# Altium schematic symbol library MSP430原理图.SCHLIB: 130 symbols (part 1 of 2)
Pins are listed as number, name and electrical type; pins without a type are passive.

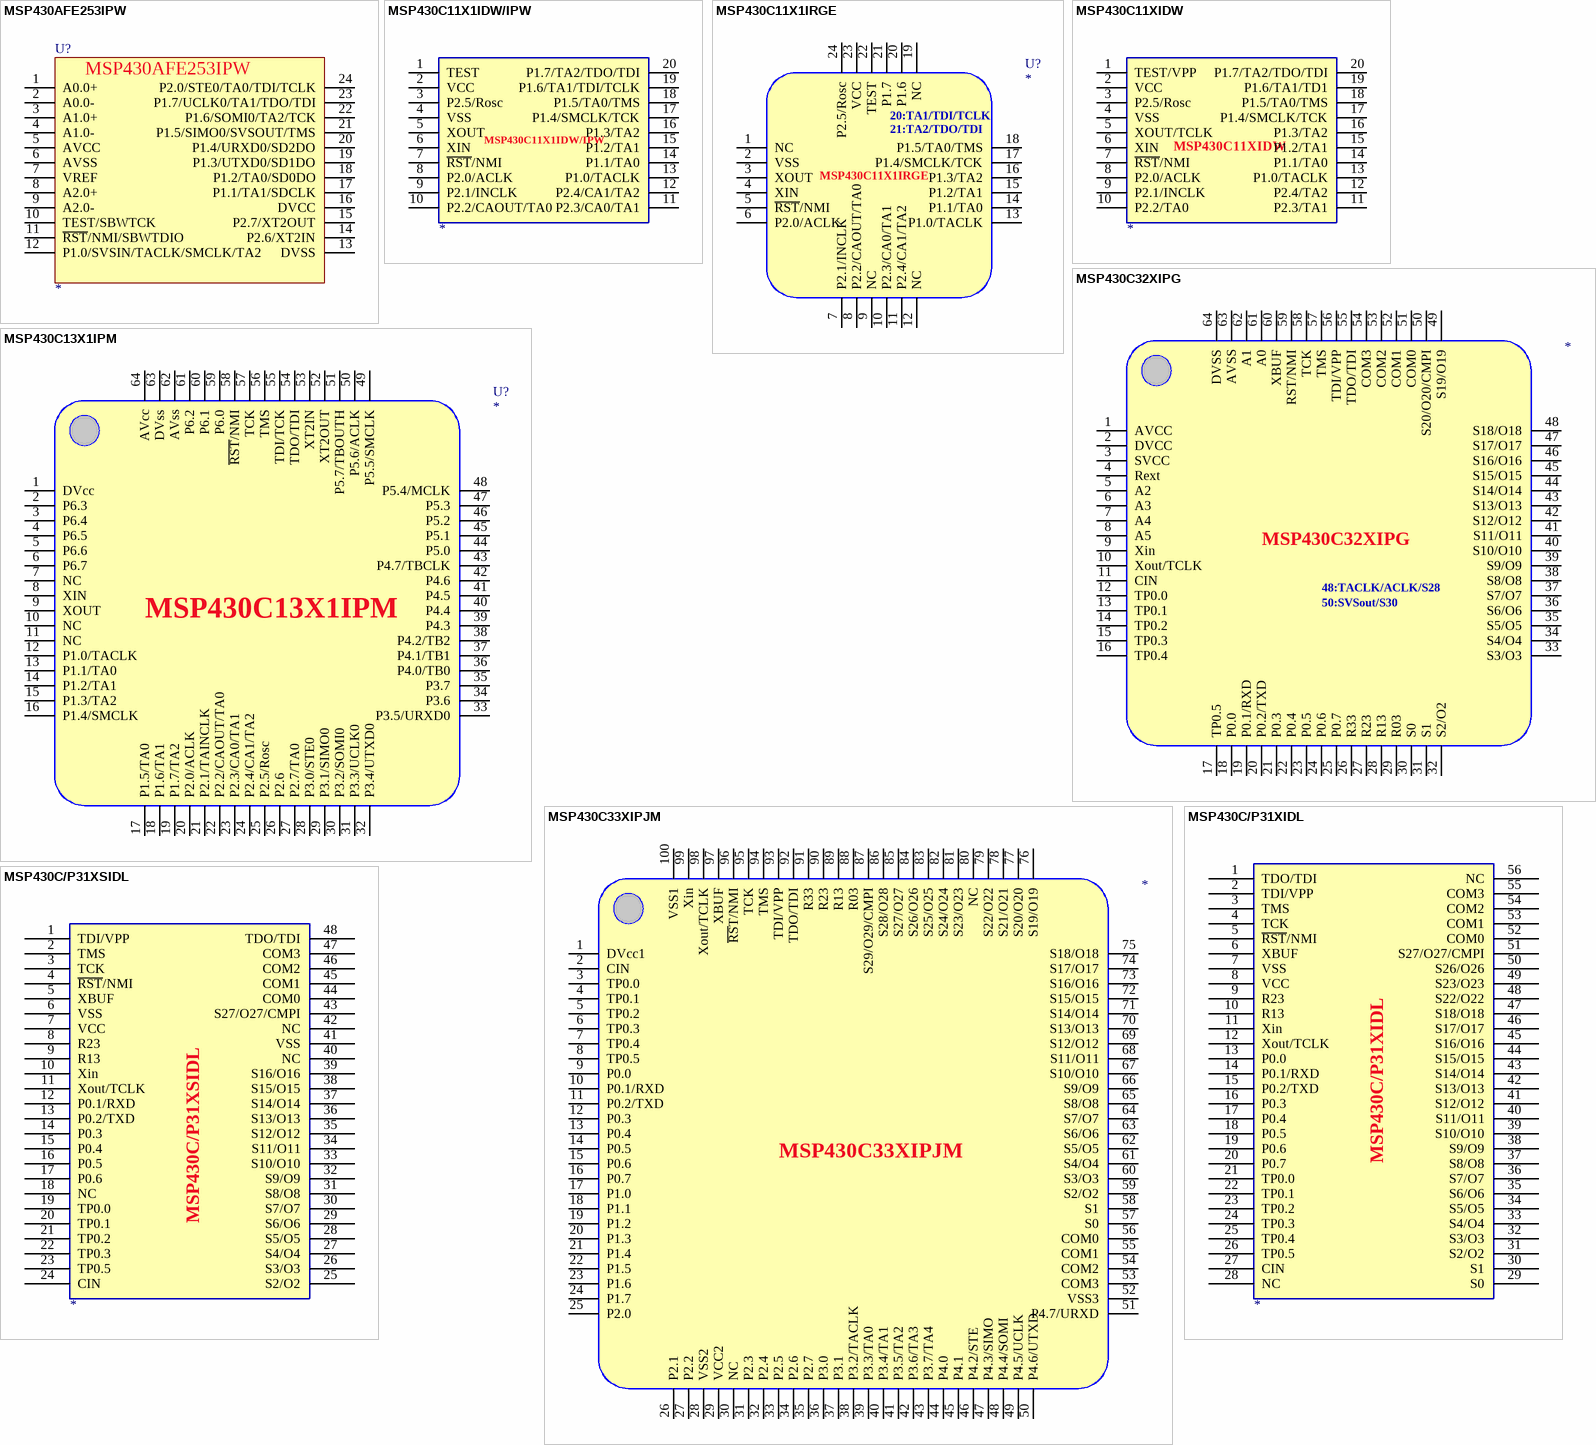
[diagram p0: symbols MSP430AFE253IPW to MSP430C/P31XSIDL]

## MSP430AFE253IPW
designator U?
pins: 1 A0.0+, 2 A0.0-, 3 A1.0+, 4 A1.0- (power), 5 AVCC (power), 6 AVSS (power), 7 VREF (power), 8 A2.0+ (power), 9 A2.0- (power), 10 TEST/SBWTCK (power), 11 ~{RST}/NMI/SBWTDIO (power), 12 P1.0/SVSIN/TACLK/SMCLK/TA2 (power), 13 DVSS (power), 14 P2.6/XT2IN (power), 15 P2.7/XT2OUT (power), 16 DVCC (power), 17 P1.1/TA1/SDCLK (power), 18 P1.2/TA0/SD0DO (power), 19 P1.3/UTXD0/SD1DO (power), 20 P1.4/URXD0/SD2DO (power), 21 P1.5/SIMO0/SVSOUT/TMS, 22 P1.6/SOMI0/TA2/TCK, 23 P1.7/UCLK0/TA1/TDO/TDI, 24 P2.0/STE0/TA0/TDI/TCLK

## MSP430C11X1IDW/IPW
designator ?
pins: 1 TEST, 2 VCC (power), 3 P2.5/Rosc (power), 4 VSS (power), 5 XOUT (power), 6 XIN (power), 7 ~{RST}/NMI (power), 8 P2.0/ACLK (power), 9 P2.1/INCLK (power), 10 P2.2/CAOUT/TA0 (power), 11 P2.3/CA0/TA1 (power), 12 P2.4/CA1/TA2 (power), 13 P1.0/TACLK (power), 14 P1.1/TA0 (power), 15 P1.2/TA1 (power), 16 P1.3/TA2 (power), 17 P1.4/SMCLK/TCK (power), 18 P1.5/TA0/TMS (power), 19 P1.6/TA1/TDI/TCLK (power), 20 P1.7/TA2/TDO/TDI (power)

## MSP430C11X1IRGE
designator U?
footprint QFN24
pins: 1 NC, 2 VSS, 3 XOUT, 4 XIN, 5 ~{RST}/NMI, 6 P2.0/ACLK, 7 P2.1/INCLK, 8 P2.2/CAOUT/TA0, 9 NC, 10 P2.3/CA0/TA1, 11 P2.4/CA1/TA2, 12 NC, 13 P1.0/TACLK, 14 P1.1/TA0, 15 P1.2/TA1, 16 P1.3/TA2, 17 P1.4/SMCLK/TCK, 18 P1.5/TA0/TMS, 19 NC, 20 P1.6, 21 P1.7, 22 TEST, 23 VCC, 24 P2.5/Rosc
text: 20:TA1/TDI/TCLK; 21:TA2/TDO/TDI

## MSP430C11XIDW
designator ?
pins: 1 TEST/VPP, 2 VCC (power), 3 P2.5/Rosc (power), 4 VSS (power), 5 XOUT/TCLK (power), 6 XIN (power), 7 ~{RST}/NMI (power), 8 P2.0/ACLK (power), 9 P2.1/INCLK (power), 10 P2.2/TA0 (power), 11 P2.3/TA1 (power), 12 P2.4/TA2 (power), 13 P1.0/TACLK (power), 14 P1.1/TA0 (power), 15 P1.2/TA1 (power), 16 P1.3/TA2 (power), 17 P1.4/SMCLK/TCK (power), 18 P1.5/TA0/TMS (power), 19 P1.6/TA1/TD1 (power), 20 P1.7/TA2/TDO/TDI (power)

## MSP430C13X1IPM
designator U?
footprint S-PQFP-G64
footprint QFN64
pins: 1 DVcc, 2 P6.3, 3 P6.4, 4 P6.5, 5 P6.6, 6 P6.7, 7 NC, 8 XIN, 9 XOUT, 10 NC, 11 NC, 12 P1.0/TACLK, 13 P1.1/TA0, 14 P1.2/TA1, 15 P1.3/TA2, 16 P1.4/SMCLK, 17 P1.5/TA0, 18 P1.6/TA1, 19 P1.7/TA2, 20 P2.0/ACLK, 21 P2.1/TAINCLK, 22 P2.2/CAOUT/TA0, 23 P2.3/CA0/TA1, 24 P2.4/CA1/TA2, 25 P2.5/Rosc, 26 P2.6, 27 P2.7/TA0, 28 P3.0/STE0, 29 P3.1/SIMO0, 30 P3.2/SOMI0, 31 P3.3/UCLK0, 32 P3.4/UTXD0, 33 P3.5/URXD0, 34 P3.6, 35 P3.7, 36 P4.0/TB0, 37 P4.1/TB1, 38 P4.2/TB2, 39 P4.3, 40 P4.4, 41 P4.5, 42 P4.6, 43 P4.7/TBCLK, 44 P5.0, 45 P5.1, 46 P5.2, 47 P5.3, 48 P5.4/MCLK, 49 P5.5/SMCLK, 50 P5.6/ACLK, 51 P5.7/TBOUTH, 52 XT2OUT, 53 XT2IN, 54 TDO/TDI, 55 TDI/TCK, 56 TMS, 57 TCK, 58 ~{RST}/NMI, 59 P6.0, 60 P6.1, 61 P6.2, 62 AVss, 63 DVss, 64 AVcc

## MSP430C32XIPG
designator ?
pins: 1 AVCC, 2 DVCC, 3 SVCC, 4 Rext, 5 A2, 6 A3, 7 A4, 8 A5, 9 Xin, 10 Xout/TCLK, 11 CIN, 12 TP0.0, 13 TP0.1, 14 TP0.2, 15 TP0.3, 16 TP0.4, 17 TP0.5, 18 P0.0, 19 P0.1/RXD, 20 P0.2/TXD, 21 P0.3, 22 P0.4, 23 P0.5, 24 P0.6, 25 P0.7, 26 R33, 27 R23, 28 R13, 29 R03, 30 S0, 31 S1, 32 S2/O2, 33 S3/O3, 34 S4/O4, 35 S5/O5, 36 S6/O6, 37 S7/O7, 38 S8/O8, 39 S9/O9, 40 S10/O10, 41 S11/O11, 42 S12/O12, 43 S13/O13, 44 S14/O14, 45 S15/O15, 46 S16/O16, 47 S17/O17, 48 S18/O18, 49 S19/O19, 50 S20/O20/CMPI, 51 COM0, 52 COM1, 53 COM2, 54 COM3, 55 TDO/TDI, 56 TDI/VPP, 57 TMS, 58 TCK, 59 RST/NMI, 60 XBUF, 61 A0, 62 A1, 63 AVSS, 64 DVSS
text: 48:TACLK/ACLK/S28; 50:SVSout/S30

## MSP430C33XIPJM
designator ?
pins: 1 DVcc1, 2 CIN, 3 TP0.0, 4 TP0.1, 5 TP0.2, 6 TP0.3, 7 TP0.4, 8 TP0.5, 9 P0.0, 10 P0.1/RXD, 11 P0.2/TXD, 12 P0.3, 13 P0.4, 14 P0.5, 15 P0.6, 16 P0.7, 17 P1.0, 18 P1.1, 19 P1.2, 20 P1.3, 21 P1.4, 22 P1.5, 23 P1.6, 24 P1.7, 25 P2.0, 26 P2.1, 27 P2.2, 28 VSS2, 29 VCC2, 30 NC, 31 P2.3, 32 P2.4, 33 P2.5, 34 P2.6, 35 P2.7, 36 P3.0, 37 P3.1, 38 P3.2/TACLK, 39 P3.3/TA0, 40 P3.4/TA1, 41 P3.5/TA2, 42 P3.6/TA3, 43 P3.7/TA4, 44 P4.0, 45 P4.1, 46 P4.2/STE, 47 P4.3/SIMO, 48 P4.4/SOMI, 49 P4.5/UCLK, 50 P4.6/UTXD, 51 P4.7/URXD, 52 VSS3, 53 COM3, 54 COM2, 55 COM1, 56 COM0, 57 S0, 58 S1, 59 S2/O2, 60 S3/O3, 61 S4/O4, 62 S5/O5, 63 S6/O6, 64 S7/O7, 65 S8/O8, 66 S9/O9, 67 S10/O10, 68 S11/O11, 69 S12/O12, 70 S13/O13, 71 S14/O14, 72 S15/O15, 73 S16/O16, 74 S17/O17, 75 S18/O18, 76 S19/O19, 77 S20/O20, 78 S21/O21, 79 S22/O22, 80 NC, 81 S23/O23, 82 S24/O24, 83 S25/O25, 84 S26/O26, 85 S27/O27, 86 S28/O28, 87 S29/O29/CMPI, 88 R03, 89 R13, 90 R23, 91 R33, 92 TDO/TDI, 93 TDI/VPP, 94 TMS, 95 TCK, 96 ~{RS}T/NMI, 97 XBUF, 98 Xout/TCLK, 99 Xin, 100 VSS1

## MSP430C/P31XIDL
designator ?
pins: 1 TDO/TDI, 2 TDI/VPP (power), 3 TMS (power), 4 TCK (power), 5 ~{RST}/NMI (power), 6 XBUF (power), 7 VSS (power), 8 VCC (power), 9 R23 (power), 10 R13 (power), 11 Xin (power), 12 Xout/TCLK (power), 13 P0.0 (power), 14 P0.1/RXD (power), 15 P0.2/TXD (power), 16 P0.3 (power), 17 P0.4 (power), 18 P0.5 (power), 19 P0.6 (power), 20 P0.7 (power), 21 TP0.0, 22 TP0.1, 23 TP0.2, 24 TP0.3, 25 TP0.4, 26 TP0.5, 27 CIN, 28 NC, 29 S0, 30 S1, 31 S2/O2, 32 S3/O3, 33 S4/O4, 34 S5/O5, 35 S6/O6, 36 S7/O7, 37 S8/O8, 38 S9/O9, 39 S10/O10, 40 S11/O11, 41 S12/O12, 42 S13/O13, 43 S14/O14, 44 S15/O15, 45 S16/O16, 46 S17/O17, 47 S18/O18, 48 S22/O22, 49 S23/O23, 50 S26/O26, 51 S27/O27/CMPI, 52 COM0, 53 COM1, 54 COM2, 55 COM3, 56 NC

## MSP430C/P31XSIDL
designator ?
pins: 1 TDI/VPP, 2 TMS (power), 3 TCK (power), 4 ~{RST}/NMI (power), 5 XBUF (power), 6 VSS (power), 7 VCC (power), 8 R23 (power), 9 R13 (power), 10 Xin (power), 11 Xout/TCLK (power), 12 P0.1/RXD (power), 13 P0.2/TXD (power), 14 P0.3 (power), 15 P0.4 (power), 16 P0.5 (power), 17 P0.6 (power), 18 NC (power), 19 TP0.0 (power), 20 TP0.1 (power), 21 TP0.2, 22 TP0.3, 23 TP0.5, 24 CIN, 25 S2/O2, 26 S3/O3, 27 S4/O4, 28 S5/O5, 29 S6/O6, 30 S7/O7, 31 S8/O8, 32 S9/O9, 33 S10/O10, 34 S11/O11, 35 S12/O12, 36 S13/O13, 37 S14/O14, 38 S15/O15, 39 S16/O16, 40 NC, 41 VSS, 42 NC, 43 S27/O27/CMPI, 44 COM0, 45 COM1, 46 COM2, 47 COM3, 48 TDO/TDI

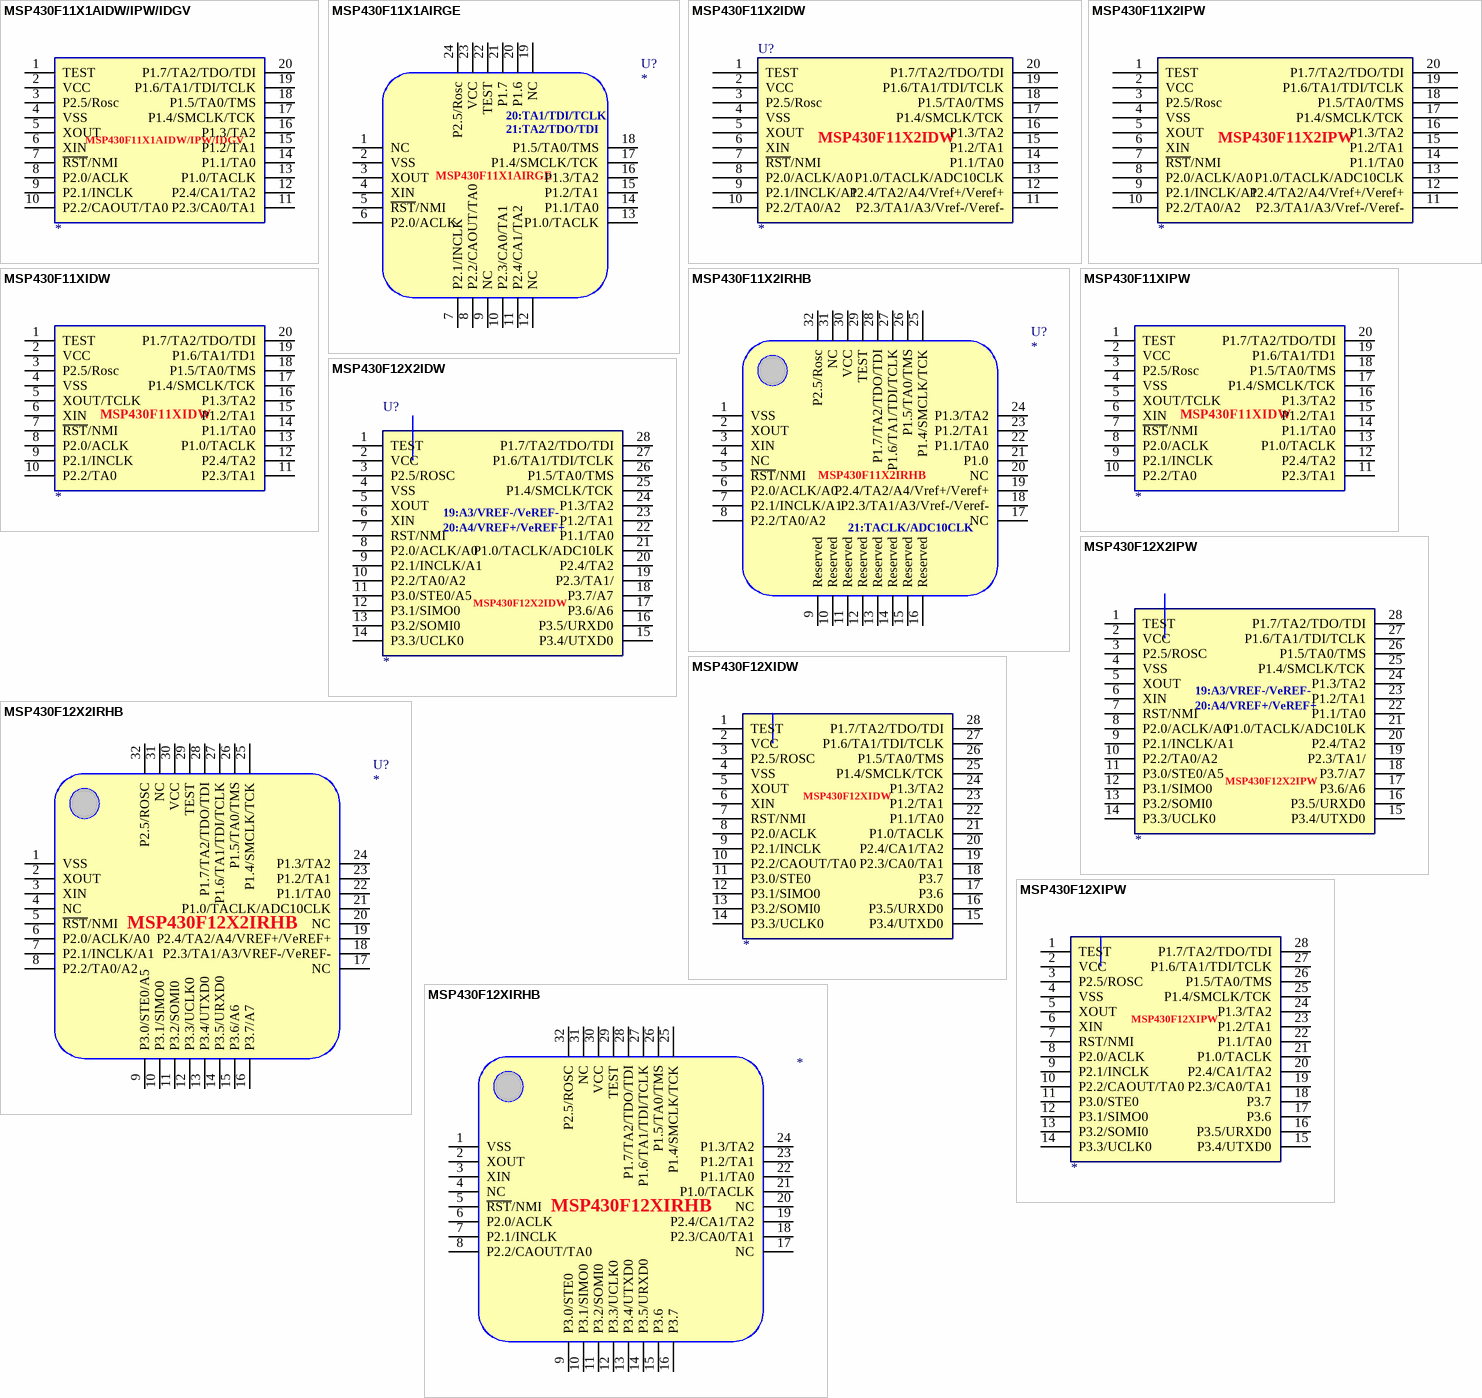
[diagram p1: symbols MSP430F11X1AIDW/IPW/IDGV to MSP430F12XIRHB]

## MSP430F11X1AIDW/IPW/IDGV
designator ?
pins: 1 TEST, 2 VCC (power), 3 P2.5/Rosc (power), 4 VSS (power), 5 XOUT (power), 6 XIN (power), 7 ~{RST}/NMI (power), 8 P2.0/ACLK (power), 9 P2.1/INCLK (power), 10 P2.2/CAOUT/TA0 (power), 11 P2.3/CA0/TA1 (power), 12 P2.4/CA1/TA2 (power), 13 P1.0/TACLK (power), 14 P1.1/TA0 (power), 15 P1.2/TA1 (power), 16 P1.3/TA2 (power), 17 P1.4/SMCLK/TCK (power), 18 P1.5/TA0/TMS (power), 19 P1.6/TA1/TDI/TCLK (power), 20 P1.7/TA2/TDO/TDI (power)

## MSP430F11X1AIRGE
designator U?
footprint QFN24
pins: 1 NC, 2 VSS, 3 XOUT, 4 XIN, 5 ~{RST}/NMI, 6 P2.0/ACLK, 7 P2.1/INCLK, 8 P2.2/CAOUT/TA0, 9 NC, 10 P2.3/CA0/TA1, 11 P2.4/CA1/TA2, 12 NC, 13 P1.0/TACLK, 14 P1.1/TA0, 15 P1.2/TA1, 16 P1.3/TA2, 17 P1.4/SMCLK/TCK, 18 P1.5/TA0/TMS, 19 NC, 20 P1.6, 21 P1.7, 22 TEST, 23 VCC, 24 P2.5/Rosc
text: 20:TA1/TDI/TCLK; 21:TA2/TDO/TDI

## MSP430F11X2IDW
designator U?
footprint R-PDSO-G20(PW)
footprint R-PDSO-G20(DW)
footprint R-PDSO-G20(DGV)
pins: 1 TEST, 2 VCC (power), 3 P2.5/Rosc (power), 4 VSS (power), 5 XOUT (power), 6 XIN (power), 7 ~{RST}/NMI (power), 8 P2.0/ACLK/A0 (power), 9 P2.1/INCLK/A1 (power), 10 P2.2/TA0/A2 (power), 11 P2.3/TA1/A3/Vref-/Veref- (power), 12 P2.4/TA2/A4/Vref+/Veref+ (power), 13 P1.0/TACLK/ADC10CLK (power), 14 P1.1/TA0 (power), 15 P1.2/TA1 (power), 16 P1.3/TA2 (power), 17 P1.4/SMCLK/TCK (power), 18 P1.5/TA0/TMS (power), 19 P1.6/TA1/TDI/TCLK (power), 20 P1.7/TA2/TDO/TDI (power)

## MSP430F11X2IPW
designator ?
pins: 1 TEST, 2 VCC (power), 3 P2.5/Rosc (power), 4 VSS (power), 5 XOUT (power), 6 XIN (power), 7 ~{RST}/NMI (power), 8 P2.0/ACLK/A0 (power), 9 P2.1/INCLK/A1 (power), 10 P2.2/TA0/A2 (power), 11 P2.3/TA1/A3/Vref-/Veref- (power), 12 P2.4/TA2/A4/Vref+/Veref+ (power), 13 P1.0/TACLK/ADC10CLK (power), 14 P1.1/TA0 (power), 15 P1.2/TA1 (power), 16 P1.3/TA2 (power), 17 P1.4/SMCLK/TCK (power), 18 P1.5/TA0/TMS (power), 19 P1.6/TA1/TDI/TCLK (power), 20 P1.7/TA2/TDO/TDI (power)

## MSP430F11X2IRHB
designator U?
footprint QFN32
pins: 1 VSS, 2 XOUT, 3 XIN, 4 NC, 5 ~{RST}/NMI, 6 P2.0/ACLK/A0, 7 P2.1/INCLK/A1, 8 P2.2/TA0/A2, 9 Reserved, 10 Reserved, 11 Reserved, 12 Reserved, 13 Reserved, 14 Reserved, 15 Reserved, 16 Reserved, 17 NC, 18 P2.3/TA1/A3/Vref-/Veref-, 19 P2.4/TA2/A4/Vref+/Veref+, 20 NC, 21 P1.0, 22 P1.1/TA0, 23 P1.2/TA1, 24 P1.3/TA2, 25 P1.4/SMCLK/TCK, 26 P1.5/TA0/TMS, 27 P1.6/TA1/TDI/TCLK, 28 P1.7/TA2/TDO/TDI, 29 TEST, 30 VCC, 31 NC, 32 P2.5/Rosc
text: 21:TACLK/ADC10CLK

## MSP430F11XIDW
designator ?
pins: 1 TEST, 2 VCC (power), 3 P2.5/Rosc (power), 4 VSS (power), 5 XOUT/TCLK (power), 6 XIN (power), 7 ~{RST}/NMI (power), 8 P2.0/ACLK (power), 9 P2.1/INCLK (power), 10 P2.2/TA0 (power), 11 P2.3/TA1 (power), 12 P2.4/TA2 (power), 13 P1.0/TACLK (power), 14 P1.1/TA0 (power), 15 P1.2/TA1 (power), 16 P1.3/TA2 (power), 17 P1.4/SMCLK/TCK (power), 18 P1.5/TA0/TMS (power), 19 P1.6/TA1/TD1 (power), 20 P1.7/TA2/TDO/TDI (power)

## MSP430F11XIPW
designator ?
pins: 1 TEST, 2 VCC (power), 3 P2.5/Rosc (power), 4 VSS (power), 5 XOUT/TCLK (power), 6 XIN (power), 7 ~{RST}/NMI (power), 8 P2.0/ACLK (power), 9 P2.1/INCLK (power), 10 P2.2/TA0 (power), 11 P2.3/TA1 (power), 12 P2.4/TA2 (power), 13 P1.0/TACLK (power), 14 P1.1/TA0 (power), 15 P1.2/TA1 (power), 16 P1.3/TA2 (power), 17 P1.4/SMCLK/TCK (power), 18 P1.5/TA0/TMS (power), 19 P1.6/TA1/TD1 (power), 20 P1.7/TA2/TDO/TDI (power)
text: MSP430F11XIDW

## MSP430F12X2IDW
designator U?
footprint R-PDSO-G28(PW)
footprint R-PDSO-G28DW)
pins: 1 TEST, 2 VCC, 3 P2.5/ROSC, 4 VSS, 5 XOUT, 6 XIN, 7 RST/NMI, 8 P2.0/ACLK/A0, 9 P2.1/INCLK/A1, 10 P2.2/TA0/A2, 11 P3.0/STE0/A5, 12 P3.1/SIMO0, 13 P3.2/SOMI0, 14 P3.3/UCLK0, 15 P3.4/UTXD0, 16 P3.5/URXD0, 17 P3.6/A6, 18 P3.7/A7, 19 P2.3/TA1/, 20 P2.4/TA2, 21 P1.0/TACLK/ADC10LK, 22 P1.1/TA0, 23 P1.2/TA1, 24 P1.3/TA2, 25 P1.4/SMCLK/TCK, 26 P1.5/TA0/TMS, 27 P1.6/TA1/TDI/TCLK, 28 P1.7/TA2/TDO/TDI
text: 19:A3/VREF-/VeREF-; 20:A4/VREF+/VeREF+

## MSP430F12X2IPW
designator ?
pins: 1 TEST, 2 VCC, 3 P2.5/ROSC, 4 VSS, 5 XOUT, 6 XIN, 7 RST/NMI, 8 P2.0/ACLK/A0, 9 P2.1/INCLK/A1, 10 P2.2/TA0/A2, 11 P3.0/STE0/A5, 12 P3.1/SIMO0, 13 P3.2/SOMI0, 14 P3.3/UCLK0, 15 P3.4/UTXD0, 16 P3.5/URXD0, 17 P3.6/A6, 18 P3.7/A7, 19 P2.3/TA1/, 20 P2.4/TA2, 21 P1.0/TACLK/ADC10LK, 22 P1.1/TA0, 23 P1.2/TA1, 24 P1.3/TA2, 25 P1.4/SMCLK/TCK, 26 P1.5/TA0/TMS, 27 P1.6/TA1/TDI/TCLK, 28 P1.7/TA2/TDO/TDI
text: 19:A3/VREF-/VeREF-; 20:A4/VREF+/VeREF+

## MSP430F12X2IRHB
designator U?
footprint QFN32
pins: 1 VSS, 2 XOUT, 3 XIN, 4 NC, 5 ~{RST}/NMI, 6 P2.0/ACLK/A0, 7 P2.1/INCLK/A1, 8 P2.2/TA0/A2, 9 P3.0/STE0/A5, 10 P3.1/SIMO0, 11 P3.2/SOMI0, 12 P3.3/UCLK0, 13 P3.4/UTXD0, 14 P3.5/URXD0, 15 P3.6/A6, 16 P3.7/A7, 17 NC, 18 P2.3/TA1/A3/VREF-/VeREF-, 19 P2.4/TA2/A4/VREF+/VeREF+, 20 NC, 21 P1.0/TACLK/ADC10CLK, 22 P1.1/TA0, 23 P1.2/TA1, 24 P1.3/TA2, 25 P1.4/SMCLK/TCK, 26 P1.5/TA0/TMS, 27 P1.6/TA1/TDI/TCLK, 28 P1.7/TA2/TDO/TDI, 29 TEST, 30 VCC, 31 NC, 32 P2.5/ROSC

## MSP430F12XIDW
designator ?
pins: 1 TEST, 2 VCC, 3 P2.5/ROSC, 4 VSS, 5 XOUT, 6 XIN, 7 RST/NMI, 8 P2.0/ACLK, 9 P2.1/INCLK, 10 P2.2/CAOUT/TA0, 11 P3.0/STE0, 12 P3.1/SIMO0, 13 P3.2/SOMI0, 14 P3.3/UCLK0, 15 P3.4/UTXD0, 16 P3.5/URXD0, 17 P3.6, 18 P3.7, 19 P2.3/CA0/TA1, 20 P2.4/CA1/TA2, 21 P1.0/TACLK, 22 P1.1/TA0, 23 P1.2/TA1, 24 P1.3/TA2, 25 P1.4/SMCLK/TCK, 26 P1.5/TA0/TMS, 27 P1.6/TA1/TDI/TCLK, 28 P1.7/TA2/TDO/TDI

## MSP430F12XIPW
designator ?
pins: 1 TEST, 2 VCC, 3 P2.5/ROSC, 4 VSS, 5 XOUT, 6 XIN, 7 RST/NMI, 8 P2.0/ACLK, 9 P2.1/INCLK, 10 P2.2/CAOUT/TA0, 11 P3.0/STE0, 12 P3.1/SIMO0, 13 P3.2/SOMI0, 14 P3.3/UCLK0, 15 P3.4/UTXD0, 16 P3.5/URXD0, 17 P3.6, 18 P3.7, 19 P2.3/CA0/TA1, 20 P2.4/CA1/TA2, 21 P1.0/TACLK, 22 P1.1/TA0, 23 P1.2/TA1, 24 P1.3/TA2, 25 P1.4/SMCLK/TCK, 26 P1.5/TA0/TMS, 27 P1.6/TA1/TDI/TCLK, 28 P1.7/TA2/TDO/TDI

## MSP430F12XIRHB
designator ?
pins: 1 VSS, 2 XOUT, 3 XIN, 4 NC, 5 ~{RST}/NMI, 6 P2.0/ACLK, 7 P2.1/INCLK, 8 P2.2/CAOUT/TA0, 9 P3.0/STE0, 10 P3.1/SIMO0, 11 P3.2/SOMI0, 12 P3.3/UCLK0, 13 P3.4/UTXD0, 14 P3.5/URXD0, 15 P3.6, 16 P3.7, 17 NC, 18 P2.3/CA0/TA1, 19 P2.4/CA1/TA2, 20 NC, 21 P1.0/TACLK, 22 P1.1/TA0, 23 P1.2/TA1, 24 P1.3/TA2, 25 P1.4/SMCLK/TCK, 26 P1.5/TA0/TMS, 27 P1.6/TA1/TDI/TCLK, 28 P1.7/TA2/TDO/TDI, 29 TEST, 30 VCC, 31 NC, 32 P2.5/ROSC

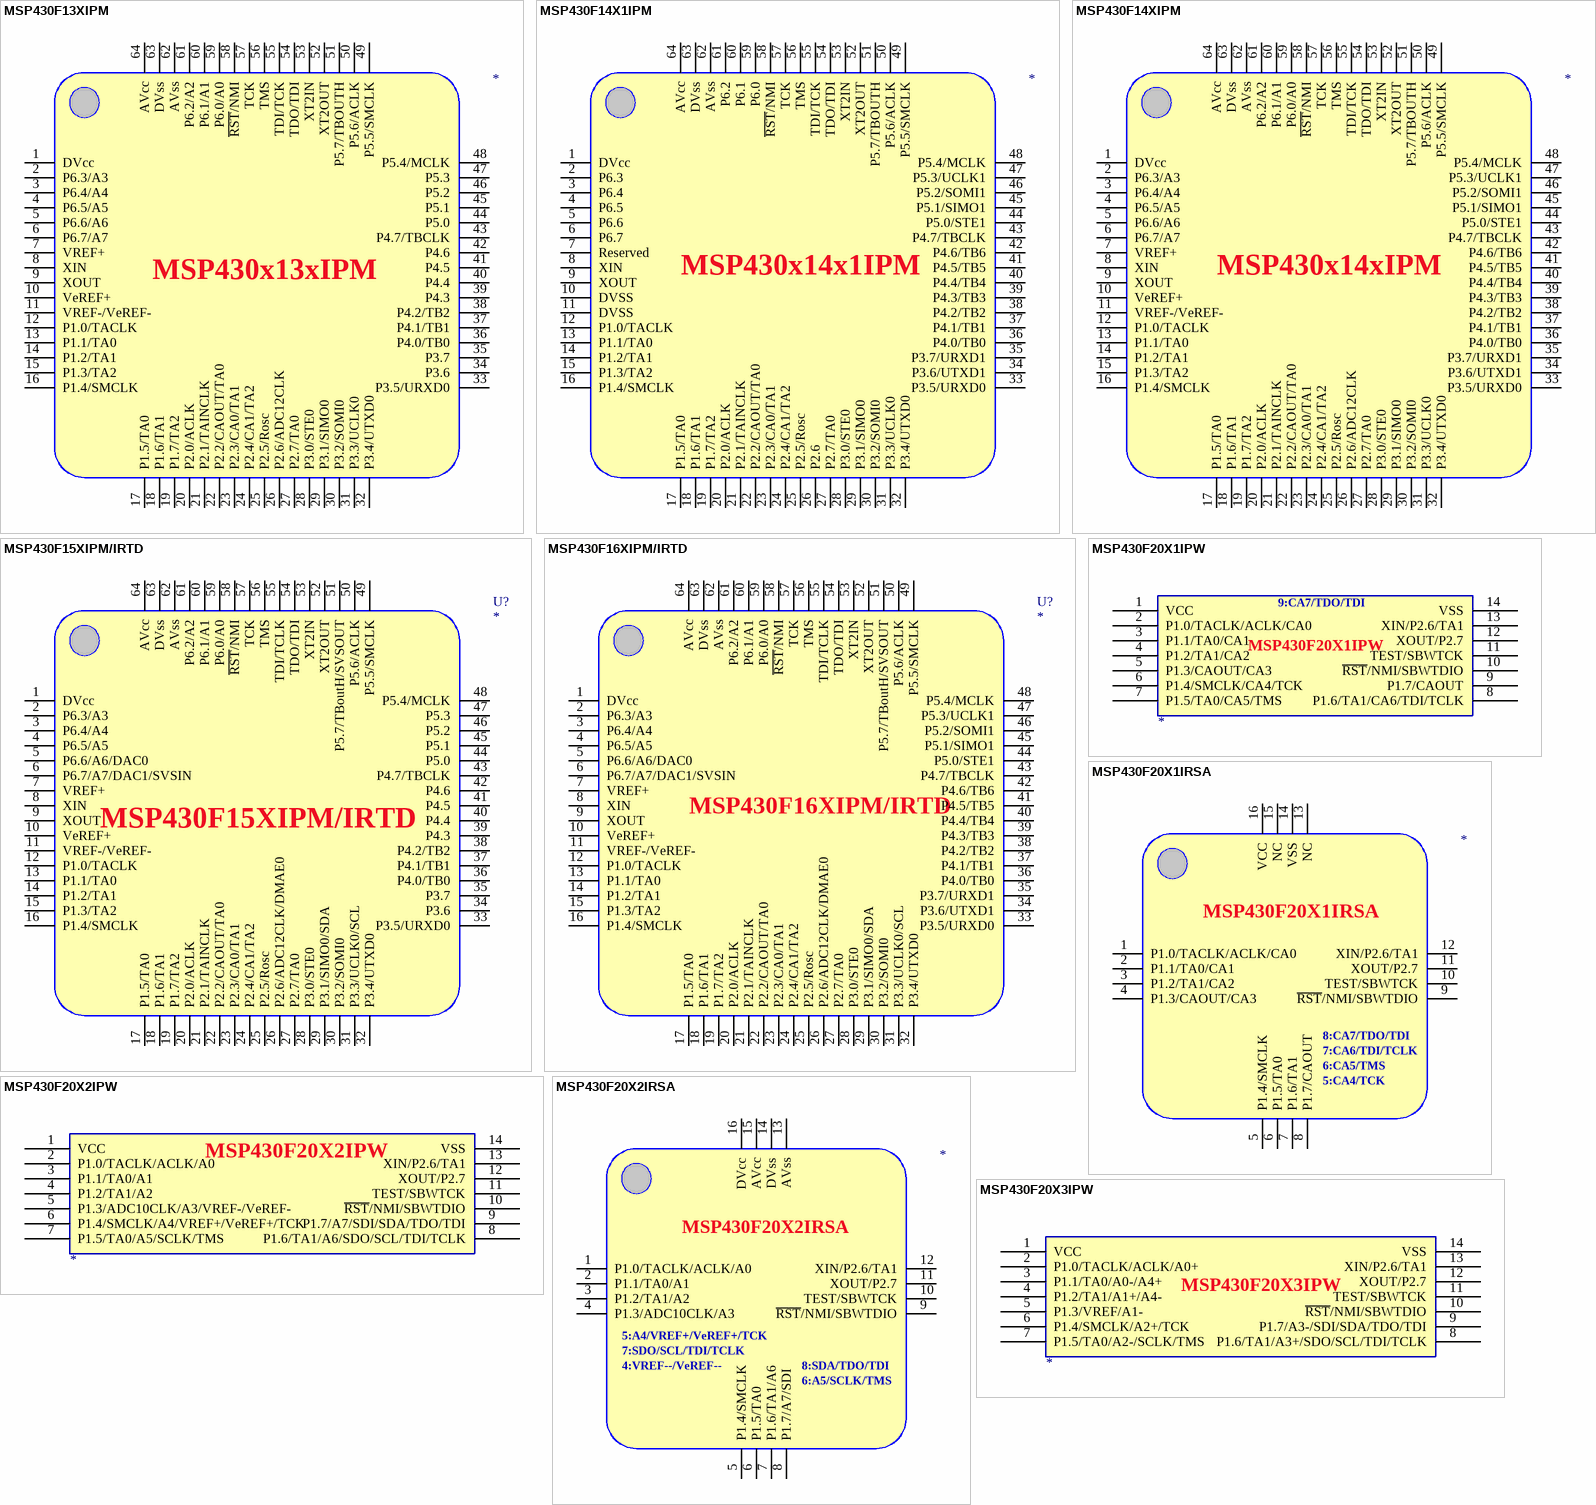
[diagram p2: symbols MSP430F13XIPM to MSP430F20X3IPW]

## MSP430F13XIPM
designator ?
pins: 1 DVcc, 2 P6.3/A3, 3 P6.4/A4, 4 P6.5/A5, 5 P6.6/A6, 6 P6.7/A7, 7 VREF+, 8 XIN, 9 XOUT, 10 VeREF+, 11 VREF-/VeREF-, 12 P1.0/TACLK, 13 P1.1/TA0, 14 P1.2/TA1, 15 P1.3/TA2, 16 P1.4/SMCLK, 17 P1.5/TA0, 18 P1.6/TA1, 19 P1.7/TA2, 20 P2.0/ACLK, 21 P2.1/TAINCLK, 22 P2.2/CAOUT/TA0, 23 P2.3/CA0/TA1, 24 P2.4/CA1/TA2, 25 P2.5/Rosc, 26 P2.6/ADC12CLK, 27 P2.7/TA0, 28 P3.0/STE0, 29 P3.1/SIMO0, 30 P3.2/SOMI0, 31 P3.3/UCLK0, 32 P3.4/UTXD0, 33 P3.5/URXD0, 34 P3.6, 35 P3.7, 36 P4.0/TB0, 37 P4.1/TB1, 38 P4.2/TB2, 39 P4.3, 40 P4.4, 41 P4.5, 42 P4.6, 43 P4.7/TBCLK, 44 P5.0, 45 P5.1, 46 P5.2, 47 P5.3, 48 P5.4/MCLK, 49 P5.5/SMCLK, 50 P5.6/ACLK, 51 P5.7/TBOUTH, 52 XT2OUT, 53 XT2IN, 54 TDO/TDI, 55 TDI/TCK, 56 TMS, 57 TCK, 58 ~{RST}/NMI, 59 P6.0/A0, 60 P6.1/A1, 61 P6.2/A2, 62 AVss, 63 DVss, 64 AVcc
text: MSP430x13xIPM

## MSP430F14X1IPM
designator ?
pins: 1 DVcc, 2 P6.3, 3 P6.4, 4 P6.5, 5 P6.6, 6 P6.7, 7 Reserved, 8 XIN, 9 XOUT, 10 DVSS, 11 DVSS, 12 P1.0/TACLK, 13 P1.1/TA0, 14 P1.2/TA1, 15 P1.3/TA2, 16 P1.4/SMCLK, 17 P1.5/TA0, 18 P1.6/TA1, 19 P1.7/TA2, 20 P2.0/ACLK, 21 P2.1/TAINCLK, 22 P2.2/CAOUT/TA0, 23 P2.3/CA0/TA1, 24 P2.4/CA1/TA2, 25 P2.5/Rosc, 26 P2.6, 27 P2.7/TA0, 28 P3.0/STE0, 29 P3.1/SIMO0, 30 P3.2/SOMI0, 31 P3.3/UCLK0, 32 P3.4/UTXD0, 33 P3.5/URXD0, 34 P3.6/UTXD1, 35 P3.7/URXD1, 36 P4.0/TB0, 37 P4.1/TB1, 38 P4.2/TB2, 39 P4.3/TB3, 40 P4.4/TB4, 41 P4.5/TB5, 42 P4.6/TB6, 43 P4.7/TBCLK, 44 P5.0/STE1, 45 P5.1/SIMO1, 46 P5.2/SOMI1, 47 P5.3/UCLK1, 48 P5.4/MCLK, 49 P5.5/SMCLK, 50 P5.6/ACLK, 51 P5.7/TBOUTH, 52 XT2OUT, 53 XT2IN, 54 TDO/TDI, 55 TDI/TCK, 56 TMS, 57 TCK, 58 ~{RST}/NMI, 59 P6.0, 60 P6.1, 61 P6.2, 62 AVss, 63 DVss, 64 AVcc
text: MSP430x14x1IPM

## MSP430F14XIPM
designator ?
pins: 1 DVcc, 2 P6.3/A3, 3 P6.4/A4, 4 P6.5/A5, 5 P6.6/A6, 6 P6.7/A7, 7 VREF+, 8 XIN, 9 XOUT, 10 VeREF+, 11 VREF-/VeREF-, 12 P1.0/TACLK, 13 P1.1/TA0, 14 P1.2/TA1, 15 P1.3/TA2, 16 P1.4/SMCLK, 17 P1.5/TA0, 18 P1.6/TA1, 19 P1.7/TA2, 20 P2.0/ACLK, 21 P2.1/TAINCLK, 22 P2.2/CAOUT/TA0, 23 P2.3/CA0/TA1, 24 P2.4/CA1/TA2, 25 P2.5/Rosc, 26 P2.6/ADC12CLK, 27 P2.7/TA0, 28 P3.0/STE0, 29 P3.1/SIMO0, 30 P3.2/SOMI0, 31 P3.3/UCLK0, 32 P3.4/UTXD0, 33 P3.5/URXD0, 34 P3.6/UTXD1, 35 P3.7/URXD1, 36 P4.0/TB0, 37 P4.1/TB1, 38 P4.2/TB2, 39 P4.3/TB3, 40 P4.4/TB4, 41 P4.5/TB5, 42 P4.6/TB6, 43 P4.7/TBCLK, 44 P5.0/STE1, 45 P5.1/SIMO1, 46 P5.2/SOMI1, 47 P5.3/UCLK1, 48 P5.4/MCLK, 49 P5.5/SMCLK, 50 P5.6/ACLK, 51 P5.7/TBOUTH, 52 XT2OUT, 53 XT2IN, 54 TDO/TDI, 55 TDI/TCK, 56 TMS, 57 TCK, 58 ~{RST}/NMI, 59 P6.0/A0, 60 P6.1/A1, 61 P6.2/A2, 62 AVss, 63 DVss, 64 AVcc
text: MSP430x14xIPM

## MSP430F15XIPM/IRTD
designator U?
footprint S-PQFP-G64
footprint QFN64
pins: 1 DVcc, 2 P6.3/A3, 3 P6.4/A4, 4 P6.5/A5, 5 P6.6/A6/DAC0, 6 P6.7/A7/DAC1/SVSIN, 7 VREF+, 8 XIN, 9 XOUT, 10 VeREF+, 11 VREF-/VeREF-, 12 P1.0/TACLK, 13 P1.1/TA0, 14 P1.2/TA1, 15 P1.3/TA2, 16 P1.4/SMCLK, 17 P1.5/TA0, 18 P1.6/TA1, 19 P1.7/TA2, 20 P2.0/ACLK, 21 P2.1/TAINCLK, 22 P2.2/CAOUT/TA0, 23 P2.3/CA0/TA1, 24 P2.4/CA1/TA2, 25 P2.5/Rosc, 26 P2.6/ADC12CLK/DMAE0, 27 P2.7/TA0, 28 P3.0/STE0, 29 P3.1/SIMO0/SDA, 30 P3.2/SOMI0, 31 P3.3/UCLK0/SCL, 32 P3.4/UTXD0, 33 P3.5/URXD0, 34 P3.6, 35 P3.7, 36 P4.0/TB0, 37 P4.1/TB1, 38 P4.2/TB2, 39 P4.3, 40 P4.4, 41 P4.5, 42 P4.6, 43 P4.7/TBCLK, 44 P5.0, 45 P5.1, 46 P5.2, 47 P5.3, 48 P5.4/MCLK, 49 P5.5/SMCLK, 50 P5.6/ACLK, 51 P5.7/TBoutH/SVSOUT, 52 XT2OUT, 53 XT2IN, 54 TDO/TDI, 55 TDI/TCLK, 56 TMS, 57 TCK, 58 ~{RST}/NMI, 59 P6.0/A0, 60 P6.1/A1, 61 P6.2/A2, 62 AVss, 63 DVss, 64 AVcc

## MSP430F16XIPM/IRTD
designator U?
footprint S-PQFP-G64
footprint QFN64
pins: 1 DVcc, 2 P6.3/A3, 3 P6.4/A4, 4 P6.5/A5, 5 P6.6/A6/DAC0, 6 P6.7/A7/DAC1/SVSIN, 7 VREF+, 8 XIN, 9 XOUT, 10 VeREF+, 11 VREF-/VeREF-, 12 P1.0/TACLK, 13 P1.1/TA0, 14 P1.2/TA1, 15 P1.3/TA2, 16 P1.4/SMCLK, 17 P1.5/TA0, 18 P1.6/TA1, 19 P1.7/TA2, 20 P2.0/ACLK, 21 P2.1/TAINCLK, 22 P2.2/CAOUT/TA0, 23 P2.3/CA0/TA1, 24 P2.4/CA1/TA2, 25 P2.5/Rosc, 26 P2.6/ADC12CLK/DMAE0, 27 P2.7/TA0, 28 P3.0/STE0, 29 P3.1/SIMO0/SDA, 30 P3.2/SOMI0, 31 P3.3/UCLK0/SCL, 32 P3.4/UTXD0, 33 P3.5/URXD0, 34 P3.6/UTXD1, 35 P3.7/URXD1, 36 P4.0/TB0, 37 P4.1/TB1, 38 P4.2/TB2, 39 P4.3/TB3, 40 P4.4/TB4, 41 P4.5/TB5, 42 P4.6/TB6, 43 P4.7/TBCLK, 44 P5.0/STE1, 45 P5.1/SIMO1, 46 P5.2/SOMI1, 47 P5.3/UCLK1, 48 P5.4/MCLK, 49 P5.5/SMCLK, 50 P5.6/ACLK, 51 P5.7/TBoutH/SVSOUT, 52 XT2OUT, 53 XT2IN, 54 TDO/TDI, 55 TDI/TCLK, 56 TMS, 57 TCK, 58 ~{RST}/NMI, 59 P6.0/A0, 60 P6.1/A1, 61 P6.2/A2, 62 AVss, 63 DVss, 64 AVcc

## MSP430F20X1IPW
designator ?
pins: 1 VCC, 2 P1.0/TACLK/ACLK/CA0 (power), 3 P1.1/TA0/CA1 (power), 4 P1.2/TA1/CA2 (power), 5 P1.3/CAOUT/CA3 (power), 6 P1.4/SMCLK/CA4/TCK (power), 7 P1.5/TA0/CA5/TMS (power), 8 P1.6/TA1/CA6/TDI/TCLK (power), 9 P1.7/CAOUT (power), 10 ~{RST}/NMI/SBWTDIO (power), 11 TEST/SBWTCK (power), 12 XOUT/P2.7 (power), 13 XIN/P2.6/TA1 (power), 14 VSS (power)
text: 9:CA7/TDO/TDI

## MSP430F20X1IRSA
designator ?
pins: 1 P1.0/TACLK/ACLK/CA0, 2 P1.1/TA0/CA1, 3 P1.2/TA1/CA2, 4 P1.3/CAOUT/CA3, 5 P1.4/SMCLK, 6 P1.5/TA0, 7 P1.6/TA1, 8 P1.7/CAOUT, 9 ~{RST}/NMI/SBWTDIO, 10 TEST/SBWTCK, 11 XOUT/P2.7, 12 XIN/P2.6/TA1, 13 NC, 14 VSS, 15 NC, 16 VCC
text: 8:CA7/TDO/TDI; 7:CA6/TDI/TCLK; 6:CA5/TMS; 5:CA4/TCK

## MSP430F20X2IPW
designator ?
pins: 1 VCC, 2 P1.0/TACLK/ACLK/A0 (power), 3 P1.1/TA0/A1 (power), 4 P1.2/TA1/A2 (power), 5 P1.3/ADC10CLK/A3/VREF-/VeREF- (power), 6 P1.4/SMCLK/A4/VREF+/VeREF+/TCK (power), 7 P1.5/TA0/A5/SCLK/TMS (power), 8 P1.6/TA1/A6/SDO/SCL/TDI/TCLK (power), 9 P1.7/A7/SDI/SDA/TDO/TDI (power), 10 ~{RST}/NMI/SBWTDIO (power), 11 TEST/SBWTCK (power), 12 XOUT/P2.7 (power), 13 XIN/P2.6/TA1 (power), 14 VSS (power)

## MSP430F20X2IRSA
designator ?
pins: 1 P1.0/TACLK/ACLK/A0, 2 P1.1/TA0/A1, 3 P1.2/TA1/A2, 4 P1.3/ADC10CLK/A3, 5 P1.4/SMCLK, 6 P1.5/TA0, 7 P1.6/TA1/A6, 8 P1.7/A7/SDI, 9 ~{RST}/NMI/SBWTDIO, 10 TEST/SBWTCK, 11 XOUT/P2.7, 12 XIN/P2.6/TA1, 13 AVss, 14 DVss, 15 AVcc, 16 DVcc
text: 5:A4/VREF+/VeREF+/TCK; 7:SDO/SCL/TDI/TCLK; 4:VREF--/VeREF--; 8:SDA/TDO/TDI; 6:A5/SCLK/TMS

## MSP430F20X3IPW
designator ?
pins: 1 VCC, 2 P1.0/TACLK/ACLK/A0+ (power), 3 P1.1/TA0/A0-/A4+ (power), 4 P1.2/TA1/A1+/A4- (power), 5 P1.3/VREF/A1- (power), 6 P1.4/SMCLK/A2+/TCK (power), 7 P1.5/TA0/A2-/SCLK/TMS (power), 8 P1.6/TA1/A3+/SDO/SCL/TDI/TCLK (power), 9 P1.7/A3-/SDI/SDA/TDO/TDI (power), 10 ~{RST}/NMI/SBWTDIO (power), 11 TEST/SBWTCK (power), 12 XOUT/P2.7 (power), 13 XIN/P2.6/TA1 (power), 14 VSS (power)

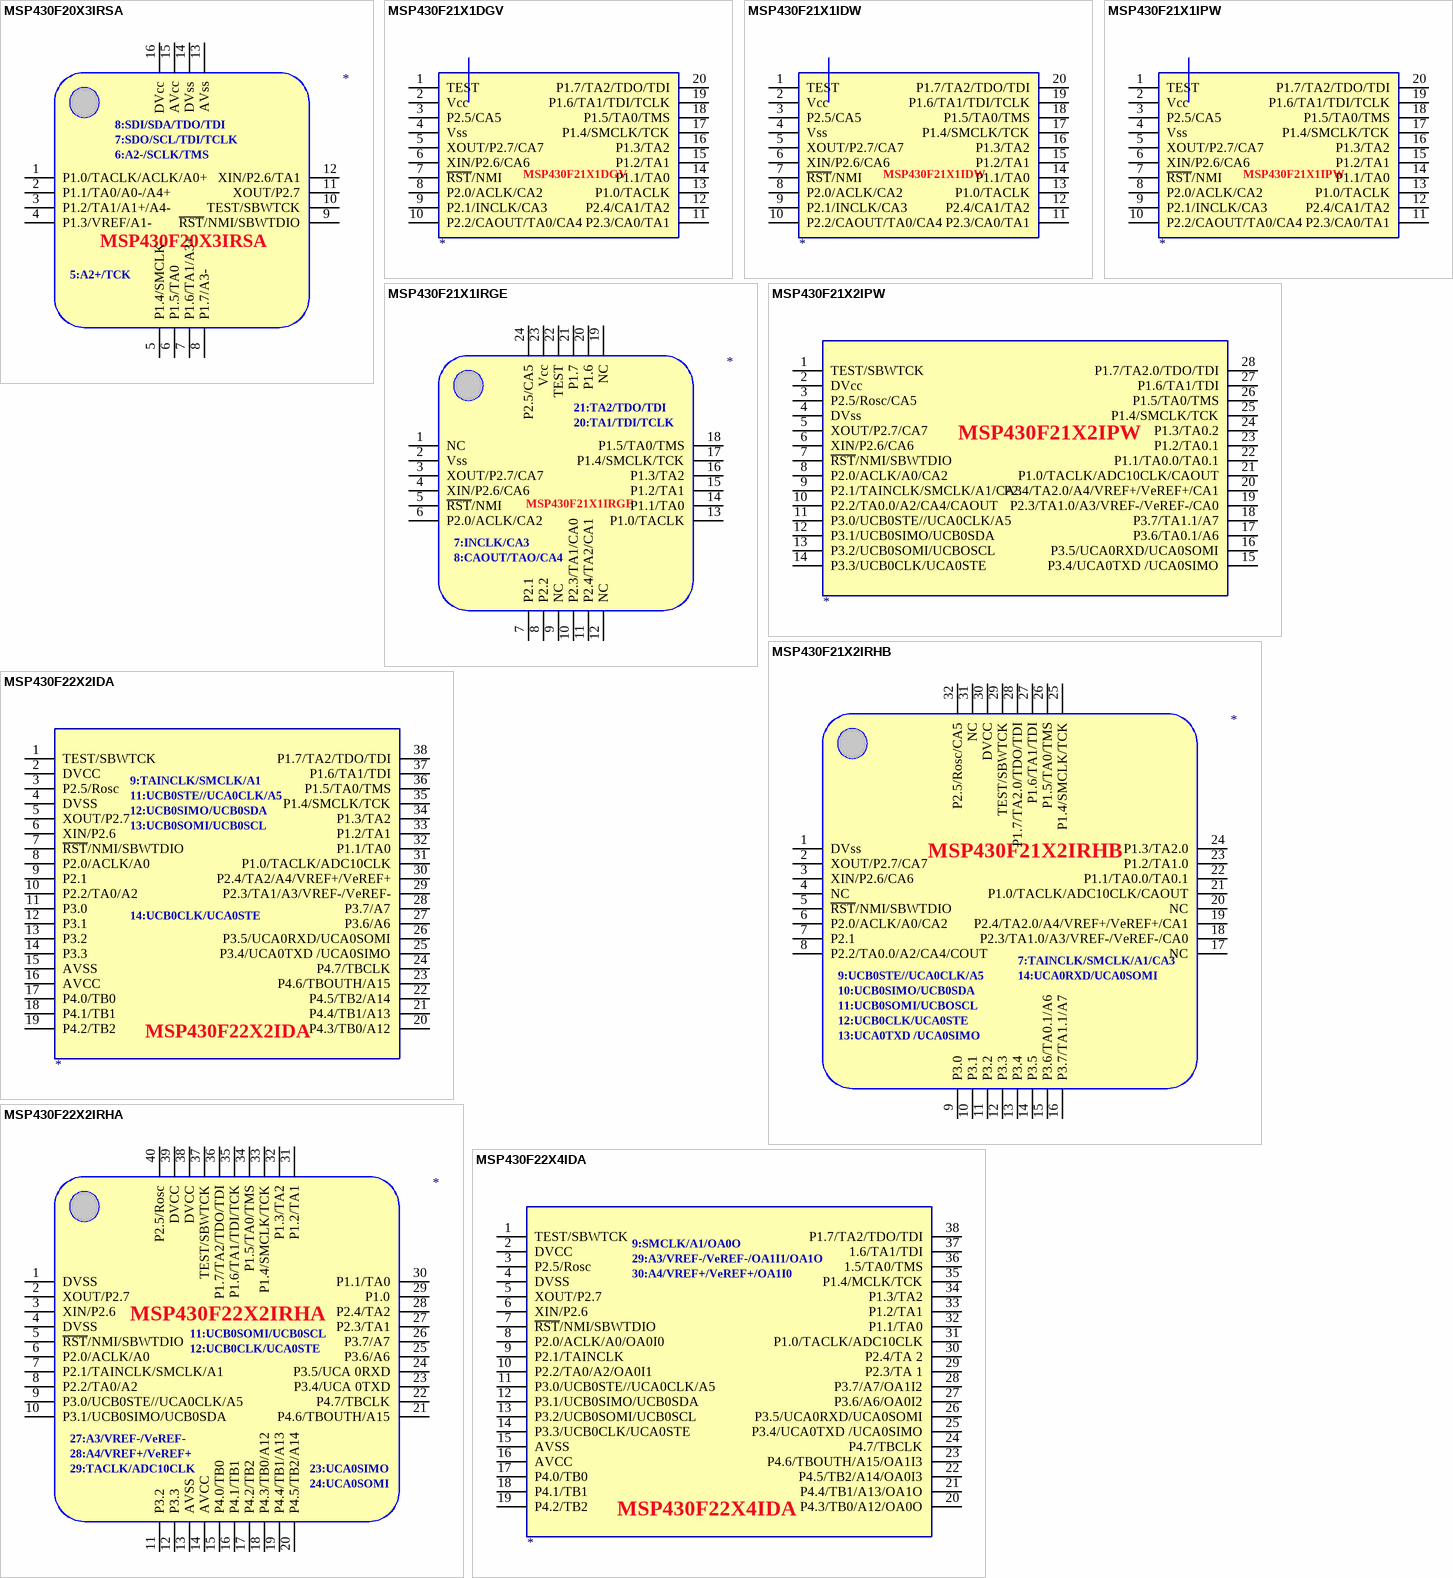
[diagram p3: symbols MSP430F20X3IRSA to MSP430F22X4IDA]

## MSP430F20X3IRSA
designator ?
pins: 1 P1.0/TACLK/ACLK/A0+, 2 P1.1/TA0/A0-/A4+, 3 P1.2/TA1/A1+/A4-, 4 P1.3/VREF/A1-, 5 P1.4/SMCLK, 6 P1.5/TA0, 7 P1.6/TA1/A3+, 8 P1.7/A3-, 9 ~{RST}/NMI/SBWTDIO, 10 TEST/SBWTCK, 11 XOUT/P2.7, 12 XIN/P2.6/TA1, 13 AVss, 14 DVss, 15 AVcc, 16 DVcc
text: 8:SDI/SDA/TDO/TDI; 7:SDO/SCL/TDI/TCLK; 6:A2-/SCLK/TMS; 5:A2+/TCK

## MSP430F21X1DGV
designator ?
pins: 1 TEST, 2 Vcc, 3 P2.5/CA5, 4 Vss, 5 XOUT/P2.7/CA7, 6 XIN/P2.6/CA6, 7 ~{RST}/NMI, 8 P2.0/ACLK/CA2, 9 P2.1/INCLK/CA3, 10 P2.2/CAOUT/TA0/CA4, 11 P2.3/CA0/TA1, 12 P2.4/CA1/TA2, 13 P1.0/TACLK, 14 P1.1/TA0, 15 P1.2/TA1, 16 P1.3/TA2, 17 P1.4/SMCLK/TCK, 18 P1.5/TA0/TMS, 19 P1.6/TA1/TDI/TCLK, 20 P1.7/TA2/TDO/TDI

## MSP430F21X1IDW
designator ?
pins: 1 TEST, 2 Vcc, 3 P2.5/CA5, 4 Vss, 5 XOUT/P2.7/CA7, 6 XIN/P2.6/CA6, 7 ~{RST}/NMI, 8 P2.0/ACLK/CA2, 9 P2.1/INCLK/CA3, 10 P2.2/CAOUT/TA0/CA4, 11 P2.3/CA0/TA1, 12 P2.4/CA1/TA2, 13 P1.0/TACLK, 14 P1.1/TA0, 15 P1.2/TA1, 16 P1.3/TA2, 17 P1.4/SMCLK/TCK, 18 P1.5/TA0/TMS, 19 P1.6/TA1/TDI/TCLK, 20 P1.7/TA2/TDO/TDI

## MSP430F21X1IPW
designator ?
pins: 1 TEST, 2 Vcc, 3 P2.5/CA5, 4 Vss, 5 XOUT/P2.7/CA7, 6 XIN/P2.6/CA6, 7 ~{RST}/NMI, 8 P2.0/ACLK/CA2, 9 P2.1/INCLK/CA3, 10 P2.2/CAOUT/TA0/CA4, 11 P2.3/CA0/TA1, 12 P2.4/CA1/TA2, 13 P1.0/TACLK, 14 P1.1/TA0, 15 P1.2/TA1, 16 P1.3/TA2, 17 P1.4/SMCLK/TCK, 18 P1.5/TA0/TMS, 19 P1.6/TA1/TDI/TCLK, 20 P1.7/TA2/TDO/TDI

## MSP430F21X1IRGE
designator ?
pins: 1 NC, 2 Vss, 3 XOUT/P2.7/CA7, 4 XIN/P2.6/CA6, 5 ~{RST}/NMI, 6 P2.0/ACLK/CA2, 7 P2.1, 8 P2.2, 9 NC, 10 P2.3/TA1/CA0, 11 P2.4/TA2/CA1, 12 NC, 13 P1.0/TACLK, 14 P1.1/TA0, 15 P1.2/TA1, 16 P1.3/TA2, 17 P1.4/SMCLK/TCK, 18 P1.5/TA0/TMS, 19 NC, 20 P1.6, 21 P1.7, 22 TEST, 23 Vcc, 24 P2.5/CA5
text: 21:TA2/TDO/TDI; 20:TA1/TDI/TCLK; 7:INCLK/CA3; 8:CAOUT/TAO/CA4

## MSP430F21X2IPW
designator ?
pins: 1 TEST/SBWTCK, 2 DVcc, 3 P2.5/Rosc/CA5, 4 DVss (power), 5 XOUT/P2.7/CA7 (power), 6 XIN/P2.6/CA6 (power), 7 ~{RST}/NMI/SBWTDIO (power), 8 P2.0/ACLK/A0/CA2 (power), 9 P2.1/TAINCLK/SMCLK/A1/CA3 (power), 10 P2.2/TA0.0/A2/CA4/CAOUT (power), 11 P3.0/UCB0STE//UCA0CLK/A5 (power), 12 P3.1/UCB0SIMO/UCB0SDA (power), 13 P3.2/UCB0SOMI/UCBOSCL (power), 14 P3.3/UCB0CLK/UCA0STE (power), 15 P3.4/UCA0TXD /UCA0SIMO (power), 16 P3.5/UCA0RXD/UCA0SOMI (power), 17 P3.6/TA0.1/A6 (power), 18 P3.7/TA1.1/A7 (power), 19 P2.3/TA1.0/A3/VREF-/VeREF-/CA0 (power), 20 P2.4/TA2.0/A4/VREF+/VeREF+/CA1 (power), 21 P1.0/TACLK/ADC10CLK/CAOUT (power), 22 P1.1/TA0.0/TA0.1 (power), 23 P1.2/TA0.1 (power), 24 P1.3/TA0.2 (power), 25 P1.4/SMCLK/TCK, 26 P1.5/TA0/TMS, 27 P1.6/TA1/TDI, 28 P1.7/TA2.0/TDO/TDI

## MSP430F21X2IRHB
designator ?
pins: 1 DVss, 2 XOUT/P2.7/CA7, 3 XIN/P2.6/CA6, 4 NC, 5 ~{RST}/NMI/SBWTDIO, 6 P2.0/ACLK/A0/CA2, 7 P2.1, 8 P2.2/TA0.0/A2/CA4/COUT, 9 P3.0, 10 P3.1, 11 P3.2, 12 P3.3, 13 P3.4, 14 P3.5, 15 P3.6/TA0.1/A6, 16 P3.7/TA1.1/A7, 17 NC, 18 P2.3/TA1.0/A3/VREF-/VeREF-/CA0, 19 P2.4/TA2.0/A4/VREF+/VeREF+/CA1, 20 NC, 21 P1.0/TACLK/ADC10CLK/CAOUT, 22 P1.1/TA0.0/TA0.1, 23 P1.2/TA1.0, 24 P1.3/TA2.0, 25 P1.4/SMCLK/TCK, 26 P1.5/TA0/TMS, 27 P1.6/TA1/TDI, 28 P1.7/TA2.0/TDO/TDI, 29 TEST/SBWTCK, 30 DVCC, 31 NC, 32 P2.5/Rosc/CA5
text: 7:TAINCLK/SMCLK/A1/CA3; 9:UCB0STE//UCA0CLK/A5; 14:UCA0RXD/UCA0SOMI; 10:UCB0SIMO/UCB0SDA; 11:UCB0SOMI/UCBOSCL; 12:UCB0CLK/UCA0STE; 13:UCA0TXD /UCA0SIMO

## MSP430F22X2IDA
designator ?
pins: 1 TEST/SBWTCK, 2 DVCC, 3 P2.5/Rosc, 4 DVSS (power), 5 XOUT/P2.7 (power), 6 XIN/P2.6 (power), 7 ~{RST}/NMI/SBWTDIO (power), 8 P2.0/ACLK/A0 (power), 9 P2.1 (power), 10 P2.2/TA0/A2 (power), 11 P3.0 (power), 12 P3.1 (power), 13 P3.2 (power), 14 P3.3 (power), 15 AVSS (power), 16 AVCC (power), 17 P4.0/TB0 (power), 18 P4.1/TB1 (power), 19 P4.2/TB2 (power), 20 P4.3/TB0/A12 (power), 21 P4.4/TB1/A13 (power), 22 P4.5/TB2/A14 (power), 23 P4.6/TBOUTH/A15 (power), 24 P4.7/TBCLK (power), 25 P3.4/UCA0TXD /UCA0SIMO (power), 26 P3.5/UCA0RXD/UCA0SOMI (power), 27 P3.6/A6 (power), 28 P3.7/A7 (power), 29 P2.3/TA1/A3/VREF-/VeREF- (power), 30 P2.4/TA2/A4/VREF+/VeREF+ (power), 31 P1.0/TACLK/ADC10CLK (power), 32 P1.1/TA0 (power), 33 P1.2/TA1 (power), 34 P1.3/TA2 (power), 35 P1.4/SMCLK/TCK, 36 P1.5/TA0/TMS, 37 P1.6/TA1/TDI, 38 P1.7/TA2/TDO/TDI
text: 9:TAINCLK/SMCLK/A1; 11:UCB0STE//UCA0CLK/A5; 12:UCB0SIMO/UCB0SDA; 13:UCB0SOMI/UCB0SCL; 14:UCB0CLK/UCA0STE

## MSP430F22X2IRHA
designator ?
pins: 1 DVSS, 2 XOUT/P2.7, 3 XIN/P2.6, 4 DVSS, 5 ~{RST}/NMI/SBWTDIO, 6 P2.0/ACLK/A0, 7 P2.1/TAINCLK/SMCLK/A1, 8 P2.2/TA0/A2, 9 P3.0/UCB0STE//UCA0CLK/A5, 10 P3.1/UCB0SIMO/UCB0SDA, 11 P3.2, 12 P3.3, 13 AVSS, 14 AVCC, 15 P4.0/TB0, 16 P4.1/TB1, 17 P4.2/TB2, 18 P4.3/TB0/A12, 19 P4.4/TB1/A13, 20 P4.5/TB2/A14, 21 P4.6/TBOUTH/A15, 22 P4.7/TBCLK, 23 P3.4/UCA 0TXD, 24 P3.5/UCA 0RXD, 25 P3.6/A6, 26 P3.7/A7, 27 P2.3/TA1, 28 P2.4/TA2, 29 P1.0, 30 P1.1/TA0, 31 P1.2/TA1, 32 P1.3/TA2, 33 P1.4/SMCLK/TCK, 34 P1.5/TA0/TMS, 35 P1.6/TA1/TDI/TCK, 36 P1.7/TA2/TDO/TDI, 37 TEST/SBWTCK, 38 DVCC, 39 DVCC, 40 P2.5/Rosc
text: 11:UCB0SOMI/UCB0SCL; 12:UCB0CLK/UCA0STE; 27:A3/VREF-/VeREF-; 28:A4/VREF+/VeREF+; 29:TACLK/ADC10CLK; 23:UCA0SIMO; 24:UCA0SOMI

## MSP430F22X4IDA
designator ?
pins: 1 TEST/SBWTCK, 2 DVCC, 3 P2.5/Rosc, 4 DVSS (power), 5 XOUT/P2.7 (power), 6 XIN/P2.6 (power), 7 ~{RST}/NMI/SBWTDIO (power), 8 P2.0/ACLK/A0/OA0I0 (power), 9 P2.1/TAINCLK (power), 10 P2.2/TA0/A2/OA0I1 (power), 11 P3.0/UCB0STE//UCA0CLK/A5 (power), 12 P3.1/UCB0SIMO/UCB0SDA (power), 13 P3.2/UCB0SOMI/UCB0SCL (power), 14 P3.3/UCB0CLK/UCA0STE (power), 15 AVSS (power), 16 AVCC (power), 17 P4.0/TB0 (power), 18 P4.1/TB1 (power), 19 P4.2/TB2 (power), 20 P4.3/TB0/A12/OA0O (power), 21 P4.4/TB1/A13/OA1O (power), 22 P4.5/TB2/A14/OA0I3 (power), 23 P4.6/TBOUTH/A15/OA1I3 (power), 24 P4.7/TBCLK (power), 25 P3.4/UCA0TXD /UCA0SIMO (power), 26 P3.5/UCA0RXD/UCA0SOMI (power), 27 P3.6/A6/OA0I2 (power), 28 P3.7/A7/OA1I2 (power), 29 P2.3/TA 1 (power), 30 P2.4/TA 2 (power), 31 P1.0/TACLK/ADC10CLK (power), 32 P1.1/TA0 (power), 33 P1.2/TA1 (power), 34 P1.3/TA2 (power), 35 P1.4/MCLK/TCK, 36 1.5/TA0/TMS, 37 1.6/TA1/TDI, 38 P1.7/TA2/TDO/TDI
text: 9:SMCLK/A1/OA0O; 29:A3/VREF-/VeREF-/OA1I1/OA1O; 30:A4/VREF+/VeREF+/OA1I0

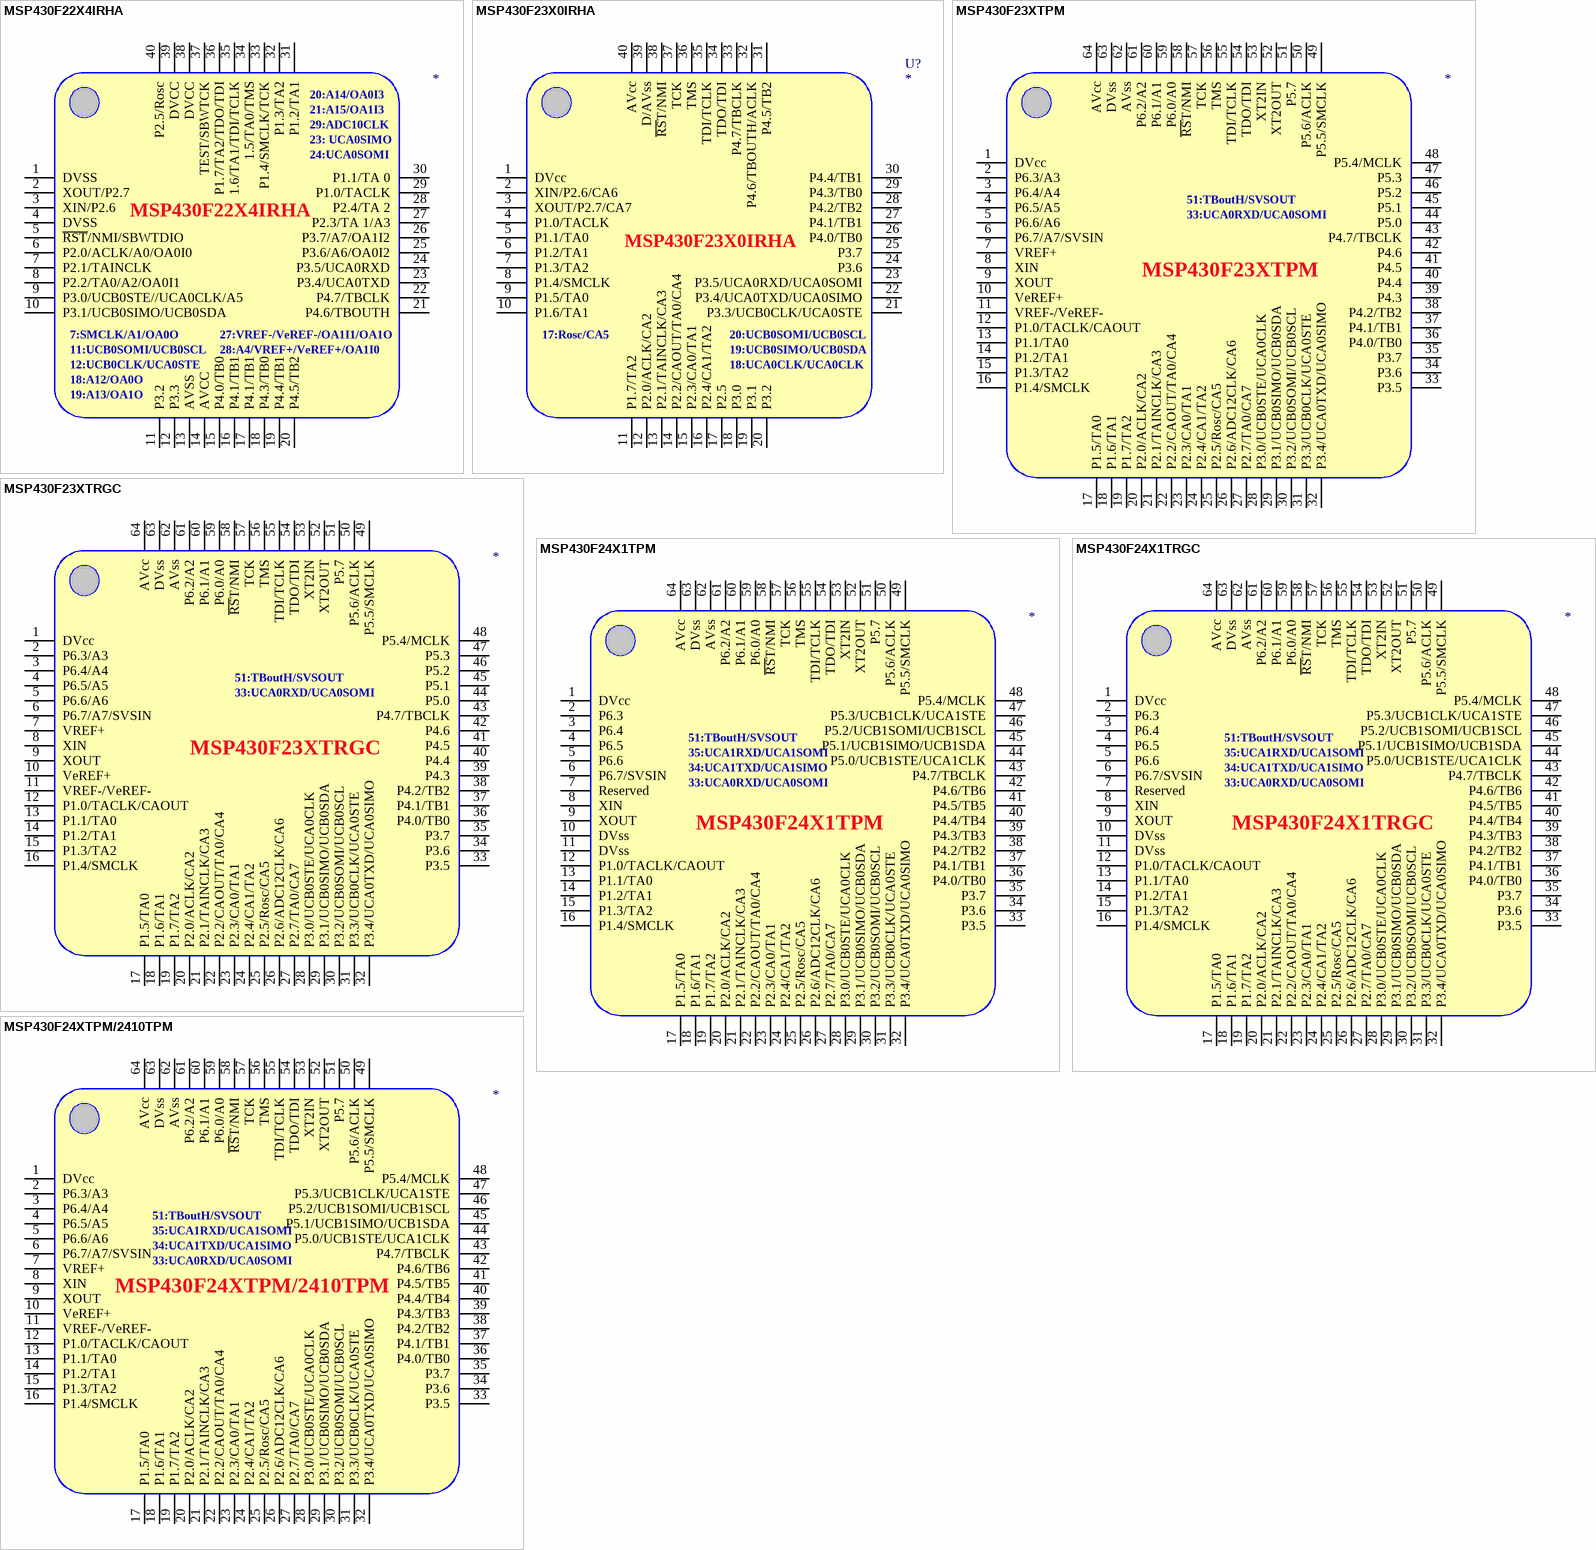
[diagram p4: symbols MSP430F22X4IRHA to MSP430F24XTPM/2410TPM]

## MSP430F22X4IRHA
designator ?
pins: 1 DVSS, 2 XOUT/P2.7, 3 XIN/P2.6, 4 DVSS, 5 ~{RST}/NMI/SBWTDIO, 6 P2.0/ACLK/A0/OA0I0, 7 P2.1/TAINCLK, 8 P2.2/TA0/A2/OA0I1, 9 P3.0/UCB0STE//UCA0CLK/A5, 10 P3.1/UCB0SIMO/UCB0SDA, 11 P3.2, 12 P3.3, 13 AVSS, 14 AVCC, 15 P4.0/TB0, 16 P4.1/TB1, 17 P4.1/TB1, 18 P4.3/TB0, 19 P4.4/TB1, 20 P4.5/TB2, 21 P4.6/TBOUTH, 22 P4.7/TBCLK, 23 P3.4/UCA0TXD, 24 P3.5/UCA0RXD, 25 P3.6/A6/OA0I2, 26 P3.7/A7/OA1I2, 27 P2.3/TA 1/A3, 28 P2.4/TA 2, 29 P1.0/TACLK, 30 P1.1/TA 0, 31 P1.2/TA1, 32 P1.3/TA2, 33 P1.4/SMCLK/TCK, 34 1.5/TA0/TMS, 35 1.6/TA1/TDI/TCLK, 36 P1.7/TA2/TDO/TDI, 37 TEST/SBWTCK, 38 DVCC, 39 DVCC, 40 P2.5/Rosc
text: 20:A14/OA0I3; 21:A15/OA1I3; 29:ADC10CLK; 23: UCA0SIMO; 24:UCA0SOMI; 7:SMCLK/A1/OA0O; 27:VREF-/VeREF-/OA1I1/OA1O; 11:UCB0SOMI/UCB0SCL; 28:A4/VREF+/VeREF+/OA1I0; 12:UCB0CLK/UCA0STE; 18:A12/OA0O; 19:A13/OA1O

## MSP430F23X0IRHA
designator U?
footprint QFN40
pins: 1 DVcc, 2 XIN/P2.6/CA6, 3 XOUT/P2.7/CA7, 4 P1.0/TACLK, 5 P1.1/TA0, 6 P1.2/TA1, 7 P1.3/TA2, 8 P1.4/SMCLK, 9 P1.5/TA0, 10 P1.6/TA1, 11 P1.7/TA2, 12 P2.0/ACLK/CA2, 13 P2.1/TAINCLK/CA3, 14 P2.2/CAOUT/TA0/CA4, 15 P2.3/CA0/TA1, 16 P2.4/CA1/TA2, 17 P2.5, 18 P3.0, 19 P3.1, 20 P3.2, 21 P3.3/UCB0CLK/UCA0STE, 22 P3.4/UCA0TXD/UCA0SIMO, 23 P3.5/UCA0RXD/UCA0SOMI, 24 P3.6, 25 P3.7, 26 P4.0/TB0, 27 P4.1/TB1, 28 P4.2/TB2, 29 P4.3/TB0, 30 P4.4/TB1, 31 P4.5/TB2, 32 P4.6/TBOUTH/ACLK, 33 P4.7/TBCLK, 34 TDO/TDI, 35 TDI/TCLK, 36 TMS, 37 TCK, 38 ~{RS}T/NMI, 39 D/AVss, 40 AVcc
text: 17:Rosc/CA5; 20:UCB0SOMI/UCB0SCL; 19:UCB0SIMO/UCB0SDA; 18:UCA0CLK/UCA0CLK

## MSP430F23XTPM
designator ?
pins: 1 DVcc, 2 P6.3/A3, 3 P6.4/A4, 4 P6.5/A5, 5 P6.6/A6, 6 P6.7/A7/SVSIN, 7 VREF+, 8 XIN, 9 XOUT, 10 VeREF+, 11 VREF-/VeREF-, 12 P1.0/TACLK/CAOUT, 13 P1.1/TA0, 14 P1.2/TA1, 15 P1.3/TA2, 16 P1.4/SMCLK, 17 P1.5/TA0, 18 P1.6/TA1, 19 P1.7/TA2, 20 P2.0/ACLK/CA2, 21 P2.1/TAINCLK/CA3, 22 P2.2/CAOUT/TA0/CA4, 23 P2.3/CA0/TA1, 24 P2.4/CA1/TA2, 25 P2.5/Rosc/CA5, 26 P2.6/ADC12CLK/CA6, 27 P2.7/TA0/CA7, 28 P3.0/UCB0STE/UCA0CLK, 29 P3.1/UCB0SIMO/UCB0SDA, 30 P3.2/UCB0SOMI/UCB0SCL, 31 P3.3/UCB0CLK/UCA0STE, 32 P3.4/UCA0TXD/UCA0SIMO, 33 P3.5, 34 P3.6, 35 P3.7, 36 P4.0/TB0, 37 P4.1/TB1, 38 P4.2/TB2, 39 P4.3, 40 P4.4, 41 P4.5, 42 P4.6, 43 P4.7/TBCLK, 44 P5.0, 45 P5.1, 46 P5.2, 47 P5.3, 48 P5.4/MCLK, 49 P5.5/SMCLK, 50 P5.6/ACLK, 51 P5.7, 52 XT2OUT, 53 XT2IN, 54 TDO/TDI, 55 TDI/TCLK, 56 TMS, 57 TCK, 58 ~{RS}T/NMI, 59 P6.0/A0, 60 P6.1/A1, 61 P6.2/A2, 62 AVss, 63 DVss, 64 AVcc
text: 51:TBoutH/SVSOUT; 33:UCA0RXD/UCA0SOMI

## MSP430F23XTRGC
designator ?
pins: 1 DVcc, 2 P6.3/A3, 3 P6.4/A4, 4 P6.5/A5, 5 P6.6/A6, 6 P6.7/A7/SVSIN, 7 VREF+, 8 XIN, 9 XOUT, 10 VeREF+, 11 VREF-/VeREF-, 12 P1.0/TACLK/CAOUT, 13 P1.1/TA0, 14 P1.2/TA1, 15 P1.3/TA2, 16 P1.4/SMCLK, 17 P1.5/TA0, 18 P1.6/TA1, 19 P1.7/TA2, 20 P2.0/ACLK/CA2, 21 P2.1/TAINCLK/CA3, 22 P2.2/CAOUT/TA0/CA4, 23 P2.3/CA0/TA1, 24 P2.4/CA1/TA2, 25 P2.5/Rosc/CA5, 26 P2.6/ADC12CLK/CA6, 27 P2.7/TA0/CA7, 28 P3.0/UCB0STE/UCA0CLK, 29 P3.1/UCB0SIMO/UCB0SDA, 30 P3.2/UCB0SOMI/UCB0SCL, 31 P3.3/UCB0CLK/UCA0STE, 32 P3.4/UCA0TXD/UCA0SIMO, 33 P3.5, 34 P3.6, 35 P3.7, 36 P4.0/TB0, 37 P4.1/TB1, 38 P4.2/TB2, 39 P4.3, 40 P4.4, 41 P4.5, 42 P4.6, 43 P4.7/TBCLK, 44 P5.0, 45 P5.1, 46 P5.2, 47 P5.3, 48 P5.4/MCLK, 49 P5.5/SMCLK, 50 P5.6/ACLK, 51 P5.7, 52 XT2OUT, 53 XT2IN, 54 TDO/TDI, 55 TDI/TCLK, 56 TMS, 57 TCK, 58 ~{RS}T/NMI, 59 P6.0/A0, 60 P6.1/A1, 61 P6.2/A2, 62 AVss, 63 DVss, 64 AVcc
text: 51:TBoutH/SVSOUT; 33:UCA0RXD/UCA0SOMI

## MSP430F24X1TPM
designator ?
pins: 1 DVcc, 2 P6.3, 3 P6.4, 4 P6.5, 5 P6.6, 6 P6.7/SVSIN, 7 Reserved, 8 XIN, 9 XOUT, 10 DVss, 11 DVss, 12 P1.0/TACLK/CAOUT, 13 P1.1/TA0, 14 P1.2/TA1, 15 P1.3/TA2, 16 P1.4/SMCLK, 17 P1.5/TA0, 18 P1.6/TA1, 19 P1.7/TA2, 20 P2.0/ACLK/CA2, 21 P2.1/TAINCLK/CA3, 22 P2.2/CAOUT/TA0/CA4, 23 P2.3/CA0/TA1, 24 P2.4/CA1/TA2, 25 P2.5/Rosc/CA5, 26 P2.6/ADC12CLK/CA6, 27 P2.7/TA0/CA7, 28 P3.0/UCB0STE/UCA0CLK, 29 P3.1/UCB0SIMO/UCB0SDA, 30 P3.2/UCB0SOMI/UCB0SCL, 31 P3.3/UCB0CLK/UCA0STE, 32 P3.4/UCA0TXD/UCA0SIMO, 33 P3.5, 34 P3.6, 35 P3.7, 36 P4.0/TB0, 37 P4.1/TB1, 38 P4.2/TB2, 39 P4.3/TB3, 40 P4.4/TB4, 41 P4.5/TB5, 42 P4.6/TB6, 43 P4.7/TBCLK, 44 P5.0/UCB1STE/UCA1CLK, 45 P5.1/UCB1SIMO/UCB1SDA, 46 P5.2/UCB1SOMI/UCB1SCL, 47 P5.3/UCB1CLK/UCA1STE, 48 P5.4/MCLK, 49 P5.5/SMCLK, 50 P5.6/ACLK, 51 P5.7, 52 XT2OUT, 53 XT2IN, 54 TDO/TDI, 55 TDI/TCLK, 56 TMS, 57 TCK, 58 ~{RS}T/NMI, 59 P6.0/A0, 60 P6.1/A1, 61 P6.2/A2, 62 AVss, 63 DVss, 64 AVcc
text: 51:TBoutH/SVSOUT; 35:UCA1RXD/UCA1SOMI; 34:UCA1TXD/UCA1SIMO; 33:UCA0RXD/UCA0SOMI

## MSP430F24X1TRGC
designator ?
pins: 1 DVcc, 2 P6.3, 3 P6.4, 4 P6.5, 5 P6.6, 6 P6.7/SVSIN, 7 Reserved, 8 XIN, 9 XOUT, 10 DVss, 11 DVss, 12 P1.0/TACLK/CAOUT, 13 P1.1/TA0, 14 P1.2/TA1, 15 P1.3/TA2, 16 P1.4/SMCLK, 17 P1.5/TA0, 18 P1.6/TA1, 19 P1.7/TA2, 20 P2.0/ACLK/CA2, 21 P2.1/TAINCLK/CA3, 22 P2.2/CAOUT/TA0/CA4, 23 P2.3/CA0/TA1, 24 P2.4/CA1/TA2, 25 P2.5/Rosc/CA5, 26 P2.6/ADC12CLK/CA6, 27 P2.7/TA0/CA7, 28 P3.0/UCB0STE/UCA0CLK, 29 P3.1/UCB0SIMO/UCB0SDA, 30 P3.2/UCB0SOMI/UCB0SCL, 31 P3.3/UCB0CLK/UCA0STE, 32 P3.4/UCA0TXD/UCA0SIMO, 33 P3.5, 34 P3.6, 35 P3.7, 36 P4.0/TB0, 37 P4.1/TB1, 38 P4.2/TB2, 39 P4.3/TB3, 40 P4.4/TB4, 41 P4.5/TB5, 42 P4.6/TB6, 43 P4.7/TBCLK, 44 P5.0/UCB1STE/UCA1CLK, 45 P5.1/UCB1SIMO/UCB1SDA, 46 P5.2/UCB1SOMI/UCB1SCL, 47 P5.3/UCB1CLK/UCA1STE, 48 P5.4/MCLK, 49 P5.5/SMCLK, 50 P5.6/ACLK, 51 P5.7, 52 XT2OUT, 53 XT2IN, 54 TDO/TDI, 55 TDI/TCLK, 56 TMS, 57 TCK, 58 ~{RS}T/NMI, 59 P6.0/A0, 60 P6.1/A1, 61 P6.2/A2, 62 AVss, 63 DVss, 64 AVcc
text: 51:TBoutH/SVSOUT; 35:UCA1RXD/UCA1SOMI; 34:UCA1TXD/UCA1SIMO; 33:UCA0RXD/UCA0SOMI

## MSP430F24XTPM/2410TPM
designator ?
pins: 1 DVcc, 2 P6.3/A3, 3 P6.4/A4, 4 P6.5/A5, 5 P6.6/A6, 6 P6.7/A7/SVSIN, 7 VREF+, 8 XIN, 9 XOUT, 10 VeREF+, 11 VREF-/VeREF-, 12 P1.0/TACLK/CAOUT, 13 P1.1/TA0, 14 P1.2/TA1, 15 P1.3/TA2, 16 P1.4/SMCLK, 17 P1.5/TA0, 18 P1.6/TA1, 19 P1.7/TA2, 20 P2.0/ACLK/CA2, 21 P2.1/TAINCLK/CA3, 22 P2.2/CAOUT/TA0/CA4, 23 P2.3/CA0/TA1, 24 P2.4/CA1/TA2, 25 P2.5/Rosc/CA5, 26 P2.6/ADC12CLK/CA6, 27 P2.7/TA0/CA7, 28 P3.0/UCB0STE/UCA0CLK, 29 P3.1/UCB0SIMO/UCB0SDA, 30 P3.2/UCB0SOMI/UCB0SCL, 31 P3.3/UCB0CLK/UCA0STE, 32 P3.4/UCA0TXD/UCA0SIMO, 33 P3.5, 34 P3.6, 35 P3.7, 36 P4.0/TB0, 37 P4.1/TB1, 38 P4.2/TB2, 39 P4.3/TB3, 40 P4.4/TB4, 41 P4.5/TB5, 42 P4.6/TB6, 43 P4.7/TBCLK, 44 P5.0/UCB1STE/UCA1CLK, 45 P5.1/UCB1SIMO/UCB1SDA, 46 P5.2/UCB1SOMI/UCB1SCL, 47 P5.3/UCB1CLK/UCA1STE, 48 P5.4/MCLK, 49 P5.5/SMCLK, 50 P5.6/ACLK, 51 P5.7, 52 XT2OUT, 53 XT2IN, 54 TDO/TDI, 55 TDI/TCLK, 56 TMS, 57 TCK, 58 ~{RS}T/NMI, 59 P6.0/A0, 60 P6.1/A1, 61 P6.2/A2, 62 AVss, 63 DVss, 64 AVcc
text: 51:TBoutH/SVSOUT; 35:UCA1RXD/UCA1SOMI; 34:UCA1TXD/UCA1SIMO; 33:UCA0RXD/UCA0SOMI

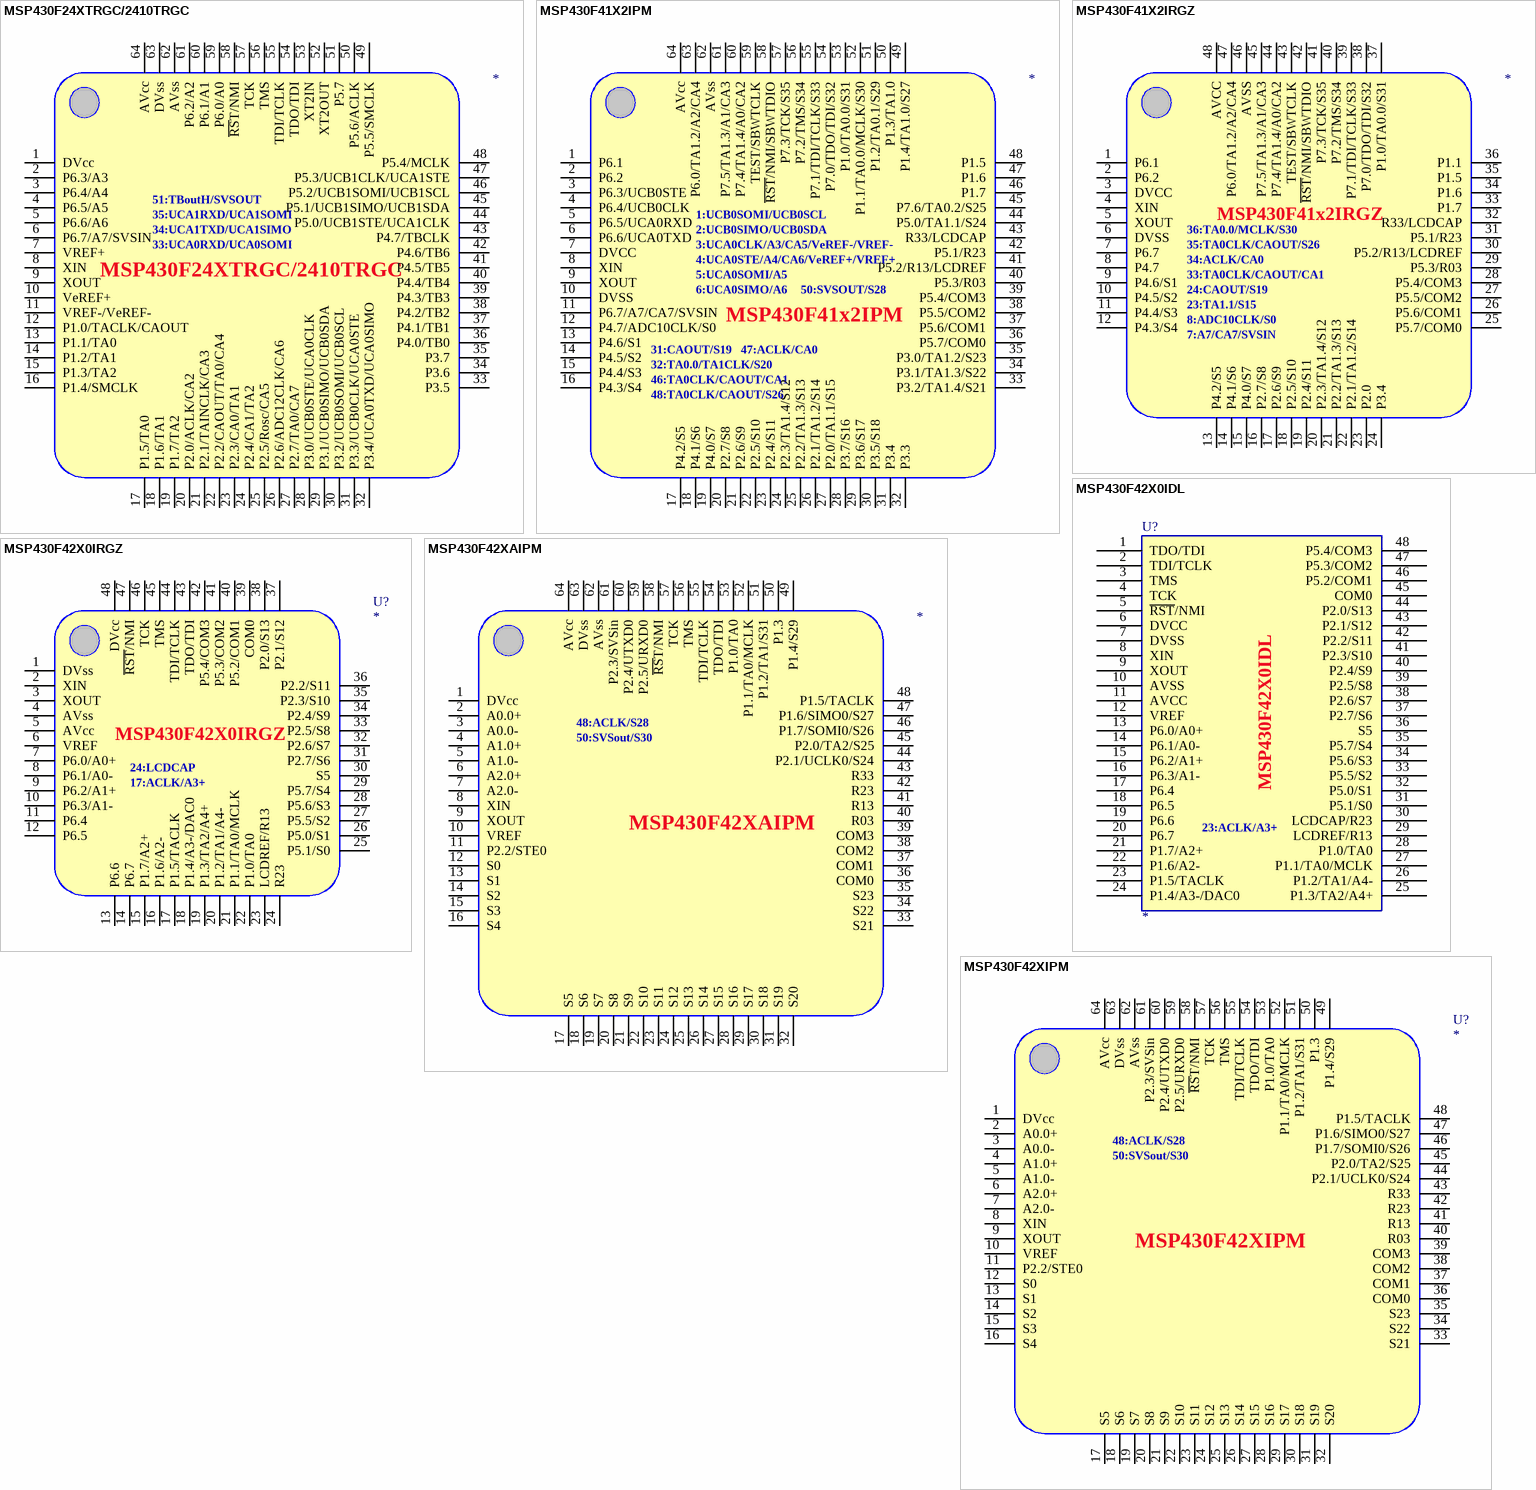
[diagram p5: symbols MSP430F24XTRGC/2410TRGC to MSP430F42XIPM]

## MSP430F24XTRGC/2410TRGC
designator ?
pins: 1 DVcc, 2 P6.3/A3, 3 P6.4/A4, 4 P6.5/A5, 5 P6.6/A6, 6 P6.7/A7/SVSIN, 7 VREF+, 8 XIN, 9 XOUT, 10 VeREF+, 11 VREF-/VeREF-, 12 P1.0/TACLK/CAOUT, 13 P1.1/TA0, 14 P1.2/TA1, 15 P1.3/TA2, 16 P1.4/SMCLK, 17 P1.5/TA0, 18 P1.6/TA1, 19 P1.7/TA2, 20 P2.0/ACLK/CA2, 21 P2.1/TAINCLK/CA3, 22 P2.2/CAOUT/TA0/CA4, 23 P2.3/CA0/TA1, 24 P2.4/CA1/TA2, 25 P2.5/Rosc/CA5, 26 P2.6/ADC12CLK/CA6, 27 P2.7/TA0/CA7, 28 P3.0/UCB0STE/UCA0CLK, 29 P3.1/UCB0SIMO/UCB0SDA, 30 P3.2/UCB0SOMI/UCB0SCL, 31 P3.3/UCB0CLK/UCA0STE, 32 P3.4/UCA0TXD/UCA0SIMO, 33 P3.5, 34 P3.6, 35 P3.7, 36 P4.0/TB0, 37 P4.1/TB1, 38 P4.2/TB2, 39 P4.3/TB3, 40 P4.4/TB4, 41 P4.5/TB5, 42 P4.6/TB6, 43 P4.7/TBCLK, 44 P5.0/UCB1STE/UCA1CLK, 45 P5.1/UCB1SIMO/UCB1SDA, 46 P5.2/UCB1SOMI/UCB1SCL, 47 P5.3/UCB1CLK/UCA1STE, 48 P5.4/MCLK, 49 P5.5/SMCLK, 50 P5.6/ACLK, 51 P5.7, 52 XT2OUT, 53 XT2IN, 54 TDO/TDI, 55 TDI/TCLK, 56 TMS, 57 TCK, 58 ~{RS}T/NMI, 59 P6.0/A0, 60 P6.1/A1, 61 P6.2/A2, 62 AVss, 63 DVss, 64 AVcc
text: 51:TBoutH/SVSOUT; 35:UCA1RXD/UCA1SOMI; 34:UCA1TXD/UCA1SIMO; 33:UCA0RXD/UCA0SOMI

## MSP430F41X2IPM
designator ?
pins: 1 P6.1, 2 P6.2, 3 P6.3/UCB0STE, 4 P6.4/UCB0CLK, 5 P6.5/UCA0RXD, 6 P6.6/UCA0TXD, 7 DVCC, 8 XIN, 9 XOUT, 10 DVSS, 11 P6.7/A7/CA7/SVSIN, 12 P4.7/ADC10CLK/S0, 13 P4.6/S1, 14 P4.5/S2, 15 P4.4/S3, 16 P4.3/S4, 17 P4.2/S5, 18 P4.1/S6, 19 P4.0/S7, 20 P2.7/S8, 21 P2.6/S9, 22 P2.5/S10, 23 P2.4/S11, 24 P2.3/TA1.4/S12, 25 P2.2/TA1.3/S13, 26 P2.1/TA1.2/S14, 27 P2.0/TA1.1/S15, 28 P3.7/S16, 29 P3.6/S17, 30 P3.5/S18, 31 P3.4, 32 P3.3, 33 P3.2/TA1.4/S21, 34 P3.1/TA1.3/S22, 35 P3.0/TA1.2/S23, 36 P5.7/COM0, 37 P5.6/COM1, 38 P5.5/COM2, 39 P5.4/COM3, 40 P5.3/R03, 41 P5.2/R13/LCDREF, 42 P5.1/R23, 43 R33/LCDCAP, 44 P5.0/TA1.1/S24, 45 P7.6/TA0.2/S25, 46 P1.7, 47 P1.6, 48 P1.5, 49 P1.4/TA1.0/S27, 50 P1.3/TA1.0, 51 P1.2/TA0.1/S29, 52 P1.1/TA0.0/MCLK/S30, 53 P1.0/TA0.0/S31, 54 P7.0/TDO/TDI/S32, 55 P7.1/TDI/TCLK/S33, 56 P7.2/TMS/S34, 57 P7.3/TCK/S35, 58 ~{RST}/NMI/SBWTDIO, 59 TEST/SBWTCLK, 60 P7.4/TA1.4/A0/CA2, 61 P7.5/TA1.3/A1/CA3, 62 AVss, 63 P6.0/TA1.2/A2/CA4, 64 AVcc
text: 1:UCB0SOMI/UCB0SCL; 2:UCB0SIMO/UCB0SDA; 3:UCA0CLK/A3/CA5/VeREF-/VREF-; 4:UCA0STE/A4/CA6/VeREF+/VREF+; 5:UCA0SOMI/A5; 6:UCA0SIMO/A6; 50:SVSOUT/S28; MSP430F41x2IPM; 31:CAOUT/S19; 47:ACLK/CA0; 32:TA0.0/TA1CLK/S20; 46:TA0CLK/CAOUT/CA1; 48:TA0CLK/CAOUT/S26

## MSP430F41X2IRGZ
designator ?
pins: 1 P6.1, 2 P6.2, 3 DVCC, 4 XIN, 5 XOUT, 6 DVSS, 7 P6.7, 8 P4.7, 9 P4.6/S1, 10 P4.5/S2, 11 P4.4/S3, 12 P4.3/S4, 13 P4.2/S5, 14 P4.1/S6, 15 P4.0/S7, 16 P2.7/S8, 17 P2.6/S9, 18 P2.5/S10, 19 P2.4/S11, 20 P2.3/TA1.4/S12, 21 P2.2/TA1.3/S13, 22 P2.1/TA1.2/S14, 23 P2.0, 24 P3.4, 25 P5.7/COM0, 26 P5.6/COM1, 27 P5.5/COM2, 28 P5.4/COM3, 29 P5.3/R03, 30 P5.2/R13/LCDREF, 31 P5.1/R23, 32 R33/LCDCAP, 33 P1.7, 34 P1.6, 35 P1.5, 36 P1.1, 37 P1.0/TA0.0/S31, 38 P7.0/TDO/TDI/S32, 39 P7.1/TDI/TCLK/S33, 40 P7.2/TMS/S34, 41 P7.3/TCK/S35, 42 ~{RST}/NMI/SBWTDIO, 43 TEST/SBWTCLK, 44 P7.4/TA1.4/A0/CA2, 45 P7.5/TA1.3/A1/CA3, 46 AVSS, 47 P6.0/TA1.2/A2/CA4, 48 AVCC
text: MSP430F41x2IRGZ; 36:TA0.0/MCLK/S30; 35:TA0CLK/CAOUT/S26; 34:ACLK/CA0; 33:TA0CLK/CAOUT/CA1; 24:CAOUT/S19; 23:TA1.1/S15; 8:ADC10CLK/S0; 7:A7/CA7/SVSIN

## MSP430F42X0IDL
designator U?
footprint R-PDSO-G48(DL)
footprint TSSOP48
pins: 1 TDO/TDI, 2 TDI/TCLK (power), 3 TMS (power), 4 TCK (power), 5 ~{RST}/NMI (power), 6 DVCC (power), 7 DVSS (power), 8 XIN (power), 9 XOUT (power), 10 AVSS (power), 11 AVCC (power), 12 VREF (power), 13 P6.0/A0+ (power), 14 P6.1/A0- (power), 15 P6.2/A1+ (power), 16 P6.3/A1- (power), 17 P6.4 (power), 18 P6.5 (power), 19 P6.6 (power), 20 P6.7 (power), 21 P1.7/A2+, 22 P1.6/A2-, 23 P1.5/TACLK, 24 P1.4/A3-/DAC0, 25 P1.3/TA2/A4+, 26 P1.2/TA1/A4-, 27 P1.1/TA0/MCLK, 28 P1.0/TA0, 29 LCDREF/R13, 30 LCDCAP/R23, 31 P5.1/S0, 32 P5.0/S1, 33 P5.5/S2, 34 P5.6/S3, 35 P5.7/S4, 36 S5, 37 P2.7/S6, 38 P2.6/S7, 39 P2.5/S8, 40 P2.4/S9, 41 P2.3/S10, 42 P2.2/S11, 43 P2.1/S12, 44 P2.0/S13, 45 COM0, 46 P5.2/COM1, 47 P5.3/COM2, 48 P5.4/COM3
text: 23:ACLK/A3+

## MSP430F42X0IRGZ
designator U?
footprint QFN48
pins: 1 DVss, 2 XIN, 3 XOUT, 4 AVss, 5 AVcc, 6 VREF, 7 P6.0/A0+, 8 P6.1/A0-, 9 P6.2/A1+, 10 P6.3/A1-, 11 P6.4, 12 P6.5, 13 P6.6, 14 P6.7, 15 P1.7/A2+, 16 P1.6/A2-, 17 P1.5/TACLK, 18 P1.4/A3-/DAC0, 19 P1.3/TA2/A4+, 20 P1.2/TA1/A4-, 21 P1.1/TA0/MCLK, 22 P1.0/TA0, 23 LCDREF/R13, 24 R23, 25 P5.1/S0, 26 P5.0/S1, 27 P5.5/S2, 28 P5.6/S3, 29 P5.7/S4, 30 S5, 31 P2.7/S6, 32 P2.6/S7, 33 P2.5/S8, 34 P2.4/S9, 35 P2.3/S10, 36 P2.2/S11, 37 P2.1/S12, 38 P2.0/S13, 39 COM0, 40 P5.2/COM1, 41 P5.3/COM2, 42 P5.4/COM3, 43 TDO/TDI, 44 TDI/TCLK, 45 TMS, 46 TCK, 47 ~{RST}/NMI, 48 DVcc
text: 24:LCDCAP; 17:ACLK/A3+

## MSP430F42XAIPM
designator ?
pins: 1 DVcc, 2 A0.0+, 3 A0.0-, 4 A1.0+, 5 A1.0-, 6 A2.0+, 7 A2.0-, 8 XIN, 9 XOUT, 10 VREF, 11 P2.2/STE0, 12 S0, 13 S1, 14 S2, 15 S3, 16 S4, 17 S5, 18 S6, 19 S7, 20 S8, 21 S9, 22 S10, 23 S11, 24 S12, 25 S13, 26 S14, 27 S15, 28 S16, 29 S17, 30 S18, 31 S19, 32 S20, 33 S21, 34 S22, 35 S23, 36 COM0, 37 COM1, 38 COM2, 39 COM3, 40 R03, 41 R13, 42 R23, 43 R33, 44 P2.1/UCLK0/S24, 45 P2.0/TA2/S25, 46 P1.7/SOMI0/S26, 47 P1.6/SIMO0/S27, 48 P1.5/TACLK, 49 P1.4/S29, 50 P1.3, 51 P1.2/TA1/S31, 52 P1.1/TA0/MCLK, 53 P1.0/TA0, 54 TDO/TDI, 55 TDI/TCLK, 56 TMS, 57 TCK, 58 ~{RS}T/NMI, 59 P2.5/URXD0, 60 P2.4/UTXD0, 61 P2.3/SVSin, 62 AVss, 63 DVss, 64 AVcc
text: 48:ACLK/S28; 50:SVSout/S30

## MSP430F42XIPM
designator U?
footprint S-PQFP-G64
pins: 1 DVcc, 2 A0.0+, 3 A0.0-, 4 A1.0+, 5 A1.0-, 6 A2.0+, 7 A2.0-, 8 XIN, 9 XOUT, 10 VREF, 11 P2.2/STE0, 12 S0, 13 S1, 14 S2, 15 S3, 16 S4, 17 S5, 18 S6, 19 S7, 20 S8, 21 S9, 22 S10, 23 S11, 24 S12, 25 S13, 26 S14, 27 S15, 28 S16, 29 S17, 30 S18, 31 S19, 32 S20, 33 S21, 34 S22, 35 S23, 36 COM0, 37 COM1, 38 COM2, 39 COM3, 40 R03, 41 R13, 42 R23, 43 R33, 44 P2.1/UCLK0/S24, 45 P2.0/TA2/S25, 46 P1.7/SOMI0/S26, 47 P1.6/SIMO0/S27, 48 P1.5/TACLK, 49 P1.4/S29, 50 P1.3, 51 P1.2/TA1/S31, 52 P1.1/TA0/MCLK, 53 P1.0/TA0, 54 TDO/TDI, 55 TDI/TCLK, 56 TMS, 57 TCK, 58 ~{RS}T/NMI, 59 P2.5/URXD0, 60 P2.4/UTXD0, 61 P2.3/SVSin, 62 AVss, 63 DVss, 64 AVcc
text: 48:ACLK/S28; 50:SVSout/S30

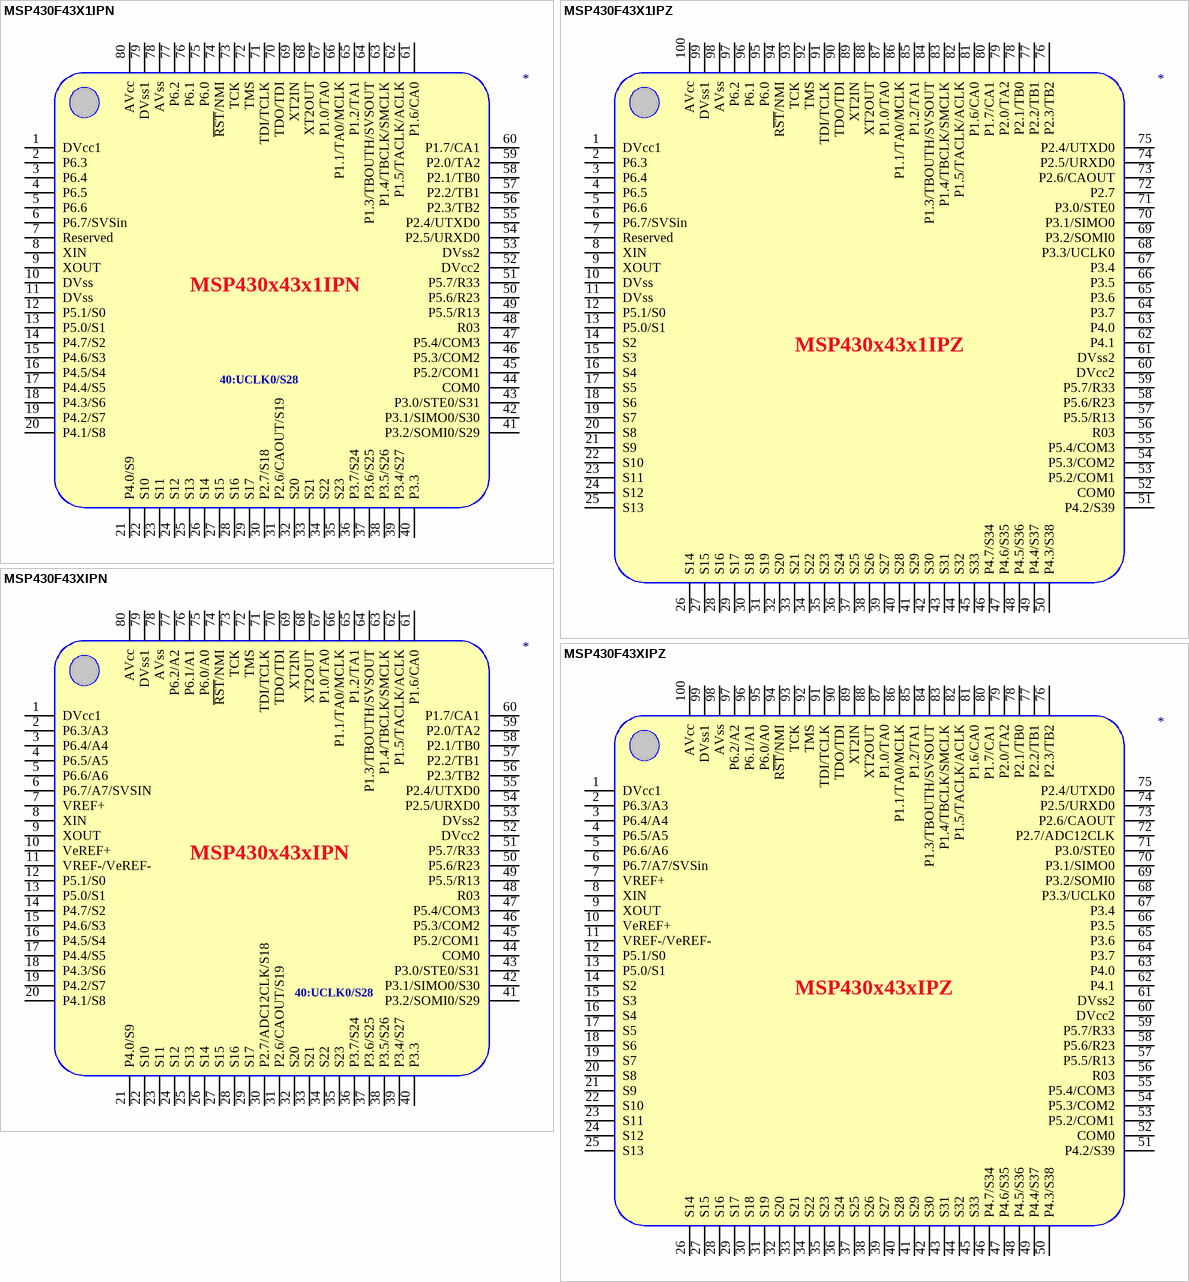
[diagram p6: symbols MSP430F43X1IPN to MSP430F43XIPZ]

## MSP430F43X1IPN
designator ?
pins: 1 DVcc1, 2 P6.3, 3 P6.4, 4 P6.5, 5 P6.6, 6 P6.7/SVSin, 7 Reserved, 8 XIN, 9 XOUT, 10 DVss, 11 DVss, 12 P5.1/S0, 13 P5.0/S1, 14 P4.7/S2, 15 P4.6/S3, 16 P4.5/S4, 17 P4.4/S5, 18 P4.3/S6, 19 P4.2/S7, 20 P4.1/S8, 21 P4.0/S9, 22 S10, 23 S11, 24 S12, 25 S13, 26 S14, 27 S15, 28 S16, 29 S17, 30 P2.7/S18, 31 P2.6/CAOUT/S19, 32 S20, 33 S21, 34 S22, 35 S23, 36 P3.7/S24, 37 P3.6/S25, 38 P3.5/S26, 39 P3.4/S27, 40 P3.3, 41 P3.2/SOMI0/S29, 42 P3.1/SIMO0/S30, 43 P3.0/STE0/S31, 44 COM0, 45 P5.2/COM1, 46 P5.3/COM2, 47 P5.4/COM3, 48 R03, 49 P5.5/R13, 50 P5.6/R23, 51 P5.7/R33, 52 DVcc2, 53 DVss2, 54 P2.5/URXD0, 55 P2.4/UTXD0, 56 P2.3/TB2, 57 P2.2/TB1, 58 P2.1/TB0, 59 P2.0/TA2, 60 P1.7/CA1, 61 P1.6/CA0, 62 P1.5/TACLK/ACLK, 63 P1.4/TBCLK/SMCLK, 64 P1.3/TBOUTH/SVSOUT, 65 P1.2/TA1, 66 P1.1/TA0/MCLK, 67 P1.0/TA0, 68 XT2OUT, 69 XT2IN, 70 TDO/TDI, 71 TDI/TCLK, 72 TMS, 73 TCK, 74 ~{RST}/NMI, 75 P6.0, 76 P6.1, 77 P6.2, 78 AVss, 79 DVss1, 80 AVcc
text: MSP430x43x1IPN; 40:UCLK0/S28

## MSP430F43X1IPZ
designator ?
pins: 1 DVcc1, 2 P6.3, 3 P6.4, 4 P6.5, 5 P6.6, 6 P6.7/SVSin, 7 Reserved, 8 XIN, 9 XOUT, 10 DVss, 11 DVss, 12 P5.1/S0, 13 P5.0/S1, 14 S2, 15 S3, 16 S4, 17 S5, 18 S6, 19 S7, 20 S8, 21 S9, 22 S10, 23 S11, 24 S12, 25 S13, 26 S14, 27 S15, 28 S16, 29 S17, 30 S18, 31 S19, 32 S20, 33 S21, 34 S22, 35 S23, 36 S24, 37 S25, 38 S26, 39 S27, 40 S28, 41 S29, 42 S30, 43 S31, 44 S32, 45 S33, 46 P4.7/S34, 47 P4.6/S35, 48 P4.5/S36, 49 P4.4/S37, 50 P4.3/S38, 51 P4.2/S39, 52 COM0, 53 P5.2/COM1, 54 P5.3/COM2, 55 P5.4/COM3, 56 R03, 57 P5.5/R13, 58 P5.6/R23, 59 P5.7/R33, 60 DVcc2, 61 DVss2, 62 P4.1, 63 P4.0, 64 P3.7, 65 P3.6, 66 P3.5, 67 P3.4, 68 P3.3/UCLK0, 69 P3.2/SOMI0, 70 P3.1/SIMO0, 71 P3.0/STE0, 72 P2.7, 73 P2.6/CAOUT, 74 P2.5/URXD0, 75 P2.4/UTXD0, 76 P2.3/TB2, 77 P2.2/TB1, 78 P2.1/TB0, 79 P2.0/TA2, 80 P1.7/CA1, 81 P1.6/CA0, 82 P1.5/TACLK/ACLK, 83 P1.4/TBCLK/SMCLK, 84 P1.3/TBOUTH/SVSOUT, 85 P1.2/TA1, 86 P1.1/TA0/MCLK, 87 P1.0/TA0, 88 XT2OUT, 89 XT2IN, 90 TDO/TDI, 91 TDI/TCLK, 92 TMS, 93 TCK, 94 R~{ST}/NMI, 95 P6.0, 96 P6.1, 97 P6.2, 98 AVss, 99 DVss1, 100 AVcc
text: MSP430x43x1IPZ

## MSP430F43XIPN
designator ?
pins: 1 DVcc1, 2 P6.3/A3, 3 P6.4/A4, 4 P6.5/A5, 5 P6.6/A6, 6 P6.7/A7/SVSIN, 7 VREF+, 8 XIN, 9 XOUT, 10 VeREF+, 11 VREF-/VeREF-, 12 P5.1/S0, 13 P5.0/S1, 14 P4.7/S2, 15 P4.6/S3, 16 P4.5/S4, 17 P4.4/S5, 18 P4.3/S6, 19 P4.2/S7, 20 P4.1/S8, 21 P4.0/S9, 22 S10, 23 S11, 24 S12, 25 S13, 26 S14, 27 S15, 28 S16, 29 S17, 30 P2.7/ADC12CLK/S18, 31 P2.6/CAOUT/S19, 32 S20, 33 S21, 34 S22, 35 S23, 36 P3.7/S24, 37 P3.6/S25, 38 P3.5/S26, 39 P3.4/S27, 40 P3.3, 41 P3.2/SOMI0/S29, 42 P3.1/SIMO0/S30, 43 P3.0/STE0/S31, 44 COM0, 45 P5.2/COM1, 46 P5.3/COM2, 47 P5.4/COM3, 48 R03, 49 P5.5/R13, 50 P5.6/R23, 51 P5.7/R33, 52 DVcc2, 53 DVss2, 54 P2.5/URXD0, 55 P2.4/UTXD0, 56 P2.3/TB2, 57 P2.2/TB1, 58 P2.1/TB0, 59 P2.0/TA2, 60 P1.7/CA1, 61 P1.6/CA0, 62 P1.5/TACLK/ACLK, 63 P1.4/TBCLK/SMCLK, 64 P1.3/TBOUTH/SVSOUT, 65 P1.2/TA1, 66 P1.1/TA0/MCLK, 67 P1.0/TA0, 68 XT2OUT, 69 XT2IN, 70 TDO/TDI, 71 TDI/TCLK, 72 TMS, 73 TCK, 74 ~{RST}/NMI, 75 P6.0/A0, 76 P6.1/A1, 77 P6.2/A2, 78 AVss, 79 DVss1, 80 AVcc
text: MSP430x43xIPN; 40:UCLK0/S28

## MSP430F43XIPZ
designator ?
pins: 1 DVcc1, 2 P6.3/A3, 3 P6.4/A4, 4 P6.5/A5, 5 P6.6/A6, 6 P6.7/A7/SVSin, 7 VREF+, 8 XIN, 9 XOUT, 10 VeREF+, 11 VREF-/VeREF-, 12 P5.1/S0, 13 P5.0/S1, 14 S2, 15 S3, 16 S4, 17 S5, 18 S6, 19 S7, 20 S8, 21 S9, 22 S10, 23 S11, 24 S12, 25 S13, 26 S14, 27 S15, 28 S16, 29 S17, 30 S18, 31 S19, 32 S20, 33 S21, 34 S22, 35 S23, 36 S24, 37 S25, 38 S26, 39 S27, 40 S28, 41 S29, 42 S30, 43 S31, 44 S32, 45 S33, 46 P4.7/S34, 47 P4.6/S35, 48 P4.5/S36, 49 P4.4/S37, 50 P4.3/S38, 51 P4.2/S39, 52 COM0, 53 P5.2/COM1, 54 P5.3/COM2, 55 P5.4/COM3, 56 R03, 57 P5.5/R13, 58 P5.6/R23, 59 P5.7/R33, 60 DVcc2, 61 DVss2, 62 P4.1, 63 P4.0, 64 P3.7, 65 P3.6, 66 P3.5, 67 P3.4, 68 P3.3/UCLK0, 69 P3.2/SOMI0, 70 P3.1/SIMO0, 71 P3.0/STE0, 72 P2.7/ADC12CLK, 73 P2.6/CAOUT, 74 P2.5/URXD0, 75 P2.4/UTXD0, 76 P2.3/TB2, 77 P2.2/TB1, 78 P2.1/TB0, 79 P2.0/TA2, 80 P1.7/CA1, 81 P1.6/CA0, 82 P1.5/TACLK/ACLK, 83 P1.4/TBCLK/SMCLK, 84 P1.3/TBOUTH/SVSOUT, 85 P1.2/TA1, 86 P1.1/TA0/MCLK, 87 P1.0/TA0, 88 XT2OUT, 89 XT2IN, 90 TDO/TDI, 91 TDI/TCLK, 92 TMS, 93 TCK, 94 R~{ST}/NMI, 95 P6.0/A0, 96 P6.1/A1, 97 P6.2/A2, 98 AVss, 99 DVss1, 100 AVcc
text: MSP430x43xIPZ

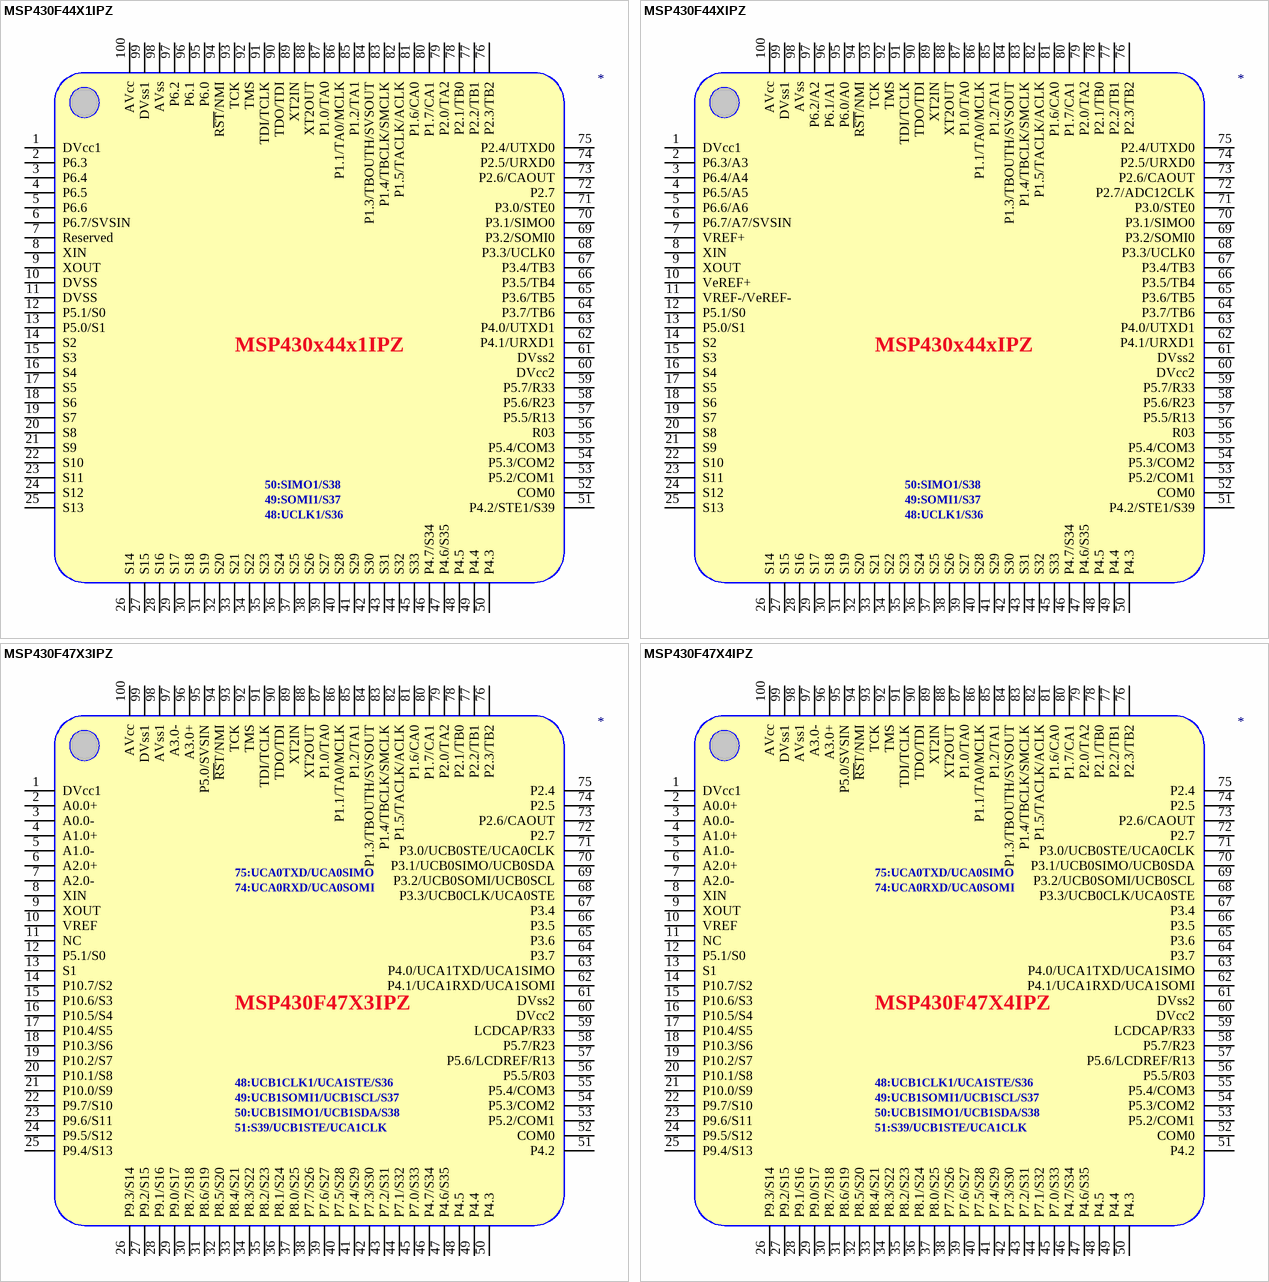
[diagram p7: symbols MSP430F44X1IPZ to MSP430F47X4IPZ]

## MSP430F44X1IPZ
designator ?
pins: 1 DVcc1, 2 P6.3, 3 P6.4, 4 P6.5, 5 P6.6, 6 P6.7/SVSIN, 7 Reserved, 8 XIN, 9 XOUT, 10 DVSS, 11 DVSS, 12 P5.1/S0, 13 P5.0/S1, 14 S2, 15 S3, 16 S4, 17 S5, 18 S6, 19 S7, 20 S8, 21 S9, 22 S10, 23 S11, 24 S12, 25 S13, 26 S14, 27 S15, 28 S16, 29 S17, 30 S18, 31 S19, 32 S20, 33 S21, 34 S22, 35 S23, 36 S24, 37 S25, 38 S26, 39 S27, 40 S28, 41 S29, 42 S30, 43 S31, 44 S32, 45 S33, 46 P4.7/S34, 47 P4.6/S35, 48 P4.5, 49 P4.4, 50 P4.3, 51 P4.2/STE1/S39, 52 COM0, 53 P5.2/COM1, 54 P5.3/COM2, 55 P5.4/COM3, 56 R03, 57 P5.5/R13, 58 P5.6/R23, 59 P5.7/R33, 60 DVcc2, 61 DVss2, 62 P4.1/URXD1, 63 P4.0/UTXD1, 64 P3.7/TB6, 65 P3.6/TB5, 66 P3.5/TB4, 67 P3.4/TB3, 68 P3.3/UCLK0, 69 P3.2/SOMI0, 70 P3.1/SIMO0, 71 P3.0/STE0, 72 P2.7, 73 P2.6/CAOUT, 74 P2.5/URXD0, 75 P2.4/UTXD0, 76 P2.3/TB2, 77 P2.2/TB1, 78 P2.1/TB0, 79 P2.0/TA2, 80 P1.7/CA1, 81 P1.6/CA0, 82 P1.5/TACLK/ACLK, 83 P1.4/TBCLK/SMCLK, 84 P1.3/TBOUTH/SVSOUT, 85 P1.2/TA1, 86 P1.1/TA0/MCLK, 87 P1.0/TA0, 88 XT2OUT, 89 XT2IN, 90 TDO/TDI, 91 TDI/TCLK, 92 TMS, 93 TCK, 94 R~{ST}/NMI, 95 P6.0, 96 P6.1, 97 P6.2, 98 AVss, 99 DVss1, 100 AVcc
text: MSP430x44x1IPZ; 50:SIMO1/S38; 49:SOMI1/S37; 48:UCLK1/S36

## MSP430F44XIPZ
designator ?
pins: 1 DVcc1, 2 P6.3/A3, 3 P6.4/A4, 4 P6.5/A5, 5 P6.6/A6, 6 P6.7/A7/SVSIN, 7 VREF+, 8 XIN, 9 XOUT, 10 VeREF+, 11 VREF-/VeREF-, 12 P5.1/S0, 13 P5.0/S1, 14 S2, 15 S3, 16 S4, 17 S5, 18 S6, 19 S7, 20 S8, 21 S9, 22 S10, 23 S11, 24 S12, 25 S13, 26 S14, 27 S15, 28 S16, 29 S17, 30 S18, 31 S19, 32 S20, 33 S21, 34 S22, 35 S23, 36 S24, 37 S25, 38 S26, 39 S27, 40 S28, 41 S29, 42 S30, 43 S31, 44 S32, 45 S33, 46 P4.7/S34, 47 P4.6/S35, 48 P4.5, 49 P4.4, 50 P4.3, 51 P4.2/STE1/S39, 52 COM0, 53 P5.2/COM1, 54 P5.3/COM2, 55 P5.4/COM3, 56 R03, 57 P5.5/R13, 58 P5.6/R23, 59 P5.7/R33, 60 DVcc2, 61 DVss2, 62 P4.1/URXD1, 63 P4.0/UTXD1, 64 P3.7/TB6, 65 P3.6/TB5, 66 P3.5/TB4, 67 P3.4/TB3, 68 P3.3/UCLK0, 69 P3.2/SOMI0, 70 P3.1/SIMO0, 71 P3.0/STE0, 72 P2.7/ADC12CLK, 73 P2.6/CAOUT, 74 P2.5/URXD0, 75 P2.4/UTXD0, 76 P2.3/TB2, 77 P2.2/TB1, 78 P2.1/TB0, 79 P2.0/TA2, 80 P1.7/CA1, 81 P1.6/CA0, 82 P1.5/TACLK/ACLK, 83 P1.4/TBCLK/SMCLK, 84 P1.3/TBOUTH/SVSOUT, 85 P1.2/TA1, 86 P1.1/TA0/MCLK, 87 P1.0/TA0, 88 XT2OUT, 89 XT2IN, 90 TDO/TDI, 91 TDI/TCLK, 92 TMS, 93 TCK, 94 R~{ST}/NMI, 95 P6.0/A0, 96 P6.1/A1, 97 P6.2/A2, 98 AVss, 99 DVss1, 100 AVcc
text: MSP430x44xIPZ; 50:SIMO1/S38; 49:SOMI1/S37; 48:UCLK1/S36

## MSP430F47X3IPZ
designator ?
pins: 1 DVcc1, 2 A0.0+, 3 A0.0-, 4 A1.0+, 5 A1.0-, 6 A2.0+, 7 A2.0-, 8 XIN, 9 XOUT, 10 VREF, 11 NC, 12 P5.1/S0, 13 S1, 14 P10.7/S2, 15 P10.6/S3, 16 P10.5/S4, 17 P10.4/S5, 18 P10.3/S6, 19 P10.2/S7, 20 P10.1/S8, 21 P10.0/S9, 22 P9.7/S10, 23 P9.6/S11, 24 P9.5/S12, 25 P9.4/S13, 26 P9.3/S14, 27 P9.2/S15, 28 P9.1/S16, 29 P9.0/S17, 30 P8.7/S18, 31 P8.6/S19, 32 P8.5/S20, 33 P8.4/S21, 34 P8.3/S22, 35 P8.2/S23, 36 P8.1/S24, 37 P8.0/S25, 38 P7.7/S26, 39 P7.6/S27, 40 P7.5/S28, 41 P7.4/S29, 42 P7.3/S30, 43 P7.2/S31, 44 P7.1/S32, 45 P7.0/S33, 46 P4.7/S34, 47 P4.6/S35, 48 P4.5, 49 P4.4, 50 P4.3, 51 P4.2, 52 COM0, 53 P5.2/COM1, 54 P5.3/COM2, 55 P5.4/COM3, 56 P5.5/R03, 57 P5.6/LCDREF/R13, 58 P5.7/R23, 59 LCDCAP/R33, 60 DVcc2, 61 DVss2, 62 P4.1/UCA1RXD/UCA1SOMI, 63 P4.0/UCA1TXD/UCA1SIMO, 64 P3.7, 65 P3.6, 66 P3.5, 67 P3.4, 68 P3.3/UCB0CLK/UCA0STE, 69 P3.2/UCB0SOMI/UCB0SCL, 70 P3.1/UCB0SIMO/UCB0SDA, 71 P3.0/UCB0STE/UCA0CLK, 72 P2.7, 73 P2.6/CAOUT, 74 P2.5, 75 P2.4, 76 P2.3/TB2, 77 P2.2/TB1, 78 P2.1/TB0, 79 P2.0/TA2, 80 P1.7/CA1, 81 P1.6/CA0, 82 P1.5/TACLK/ACLK, 83 P1.4/TBCLK/SMCLK, 84 P1.3/TBOUTH/SVSOUT, 85 P1.2/TA1, 86 P1.1/TA0/MCLK, 87 P1.0/TA0, 88 XT2OUT, 89 XT2IN, 90 TDO/TDI, 91 TDI/TCLK, 92 TMS, 93 TCK, 94 ~{RS}T/NMI, 95 P5.0/SVSIN, 96 A3.0+, 97 A3.0-, 98 AVss1, 99 DVss1, 100 AVcc
text: 75:UCA0TXD/UCA0SIMO; 74:UCA0RXD/UCA0SOMI; 48:UCB1CLK1/UCA1STE/S36; 49:UCB1SOMI1/UCB1SCL/S37; 50:UCB1SIMO1/UCB1SDA/S38; 51:S39/UCB1STE/UCA1CLK

## MSP430F47X4IPZ
designator ?
pins: 1 DVcc1, 2 A0.0+, 3 A0.0-, 4 A1.0+, 5 A1.0-, 6 A2.0+, 7 A2.0-, 8 XIN, 9 XOUT, 10 VREF, 11 NC, 12 P5.1/S0, 13 S1, 14 P10.7/S2, 15 P10.6/S3, 16 P10.5/S4, 17 P10.4/S5, 18 P10.3/S6, 19 P10.2/S7, 20 P10.1/S8, 21 P10.0/S9, 22 P9.7/S10, 23 P9.6/S11, 24 P9.5/S12, 25 P9.4/S13, 26 P9.3/S14, 27 P9.2/S15, 28 P9.1/S16, 29 P9.0/S17, 30 P8.7/S18, 31 P8.6/S19, 32 P8.5/S20, 33 P8.4/S21, 34 P8.3/S22, 35 P8.2/S23, 36 P8.1/S24, 37 P8.0/S25, 38 P7.7/S26, 39 P7.6/S27, 40 P7.5/S28, 41 P7.4/S29, 42 P7.3/S30, 43 P7.2/S31, 44 P7.1/S32, 45 P7.0/S33, 46 P4.7/S34, 47 P4.6/S35, 48 P4.5, 49 P4.4, 50 P4.3, 51 P4.2, 52 COM0, 53 P5.2/COM1, 54 P5.3/COM2, 55 P5.4/COM3, 56 P5.5/R03, 57 P5.6/LCDREF/R13, 58 P5.7/R23, 59 LCDCAP/R33, 60 DVcc2, 61 DVss2, 62 P4.1/UCA1RXD/UCA1SOMI, 63 P4.0/UCA1TXD/UCA1SIMO, 64 P3.7, 65 P3.6, 66 P3.5, 67 P3.4, 68 P3.3/UCB0CLK/UCA0STE, 69 P3.2/UCB0SOMI/UCB0SCL, 70 P3.1/UCB0SIMO/UCB0SDA, 71 P3.0/UCB0STE/UCA0CLK, 72 P2.7, 73 P2.6/CAOUT, 74 P2.5, 75 P2.4, 76 P2.3/TB2, 77 P2.2/TB1, 78 P2.1/TB0, 79 P2.0/TA2, 80 P1.7/CA1, 81 P1.6/CA0, 82 P1.5/TACLK/ACLK, 83 P1.4/TBCLK/SMCLK, 84 P1.3/TBOUTH/SVSOUT, 85 P1.2/TA1, 86 P1.1/TA0/MCLK, 87 P1.0/TA0, 88 XT2OUT, 89 XT2IN, 90 TDO/TDI, 91 TDI/TCLK, 92 TMS, 93 TCK, 94 ~{RS}T/NMI, 95 P5.0/SVSIN, 96 A3.0+, 97 A3.0-, 98 AVss1, 99 DVss1, 100 AVcc
text: 75:UCA0TXD/UCA0SIMO; 74:UCA0RXD/UCA0SOMI; 48:UCB1CLK1/UCA1STE/S36; 49:UCB1SOMI1/UCB1SCL/S37; 50:UCB1SIMO1/UCB1SDA/S38; 51:S39/UCB1STE/UCA1CLK

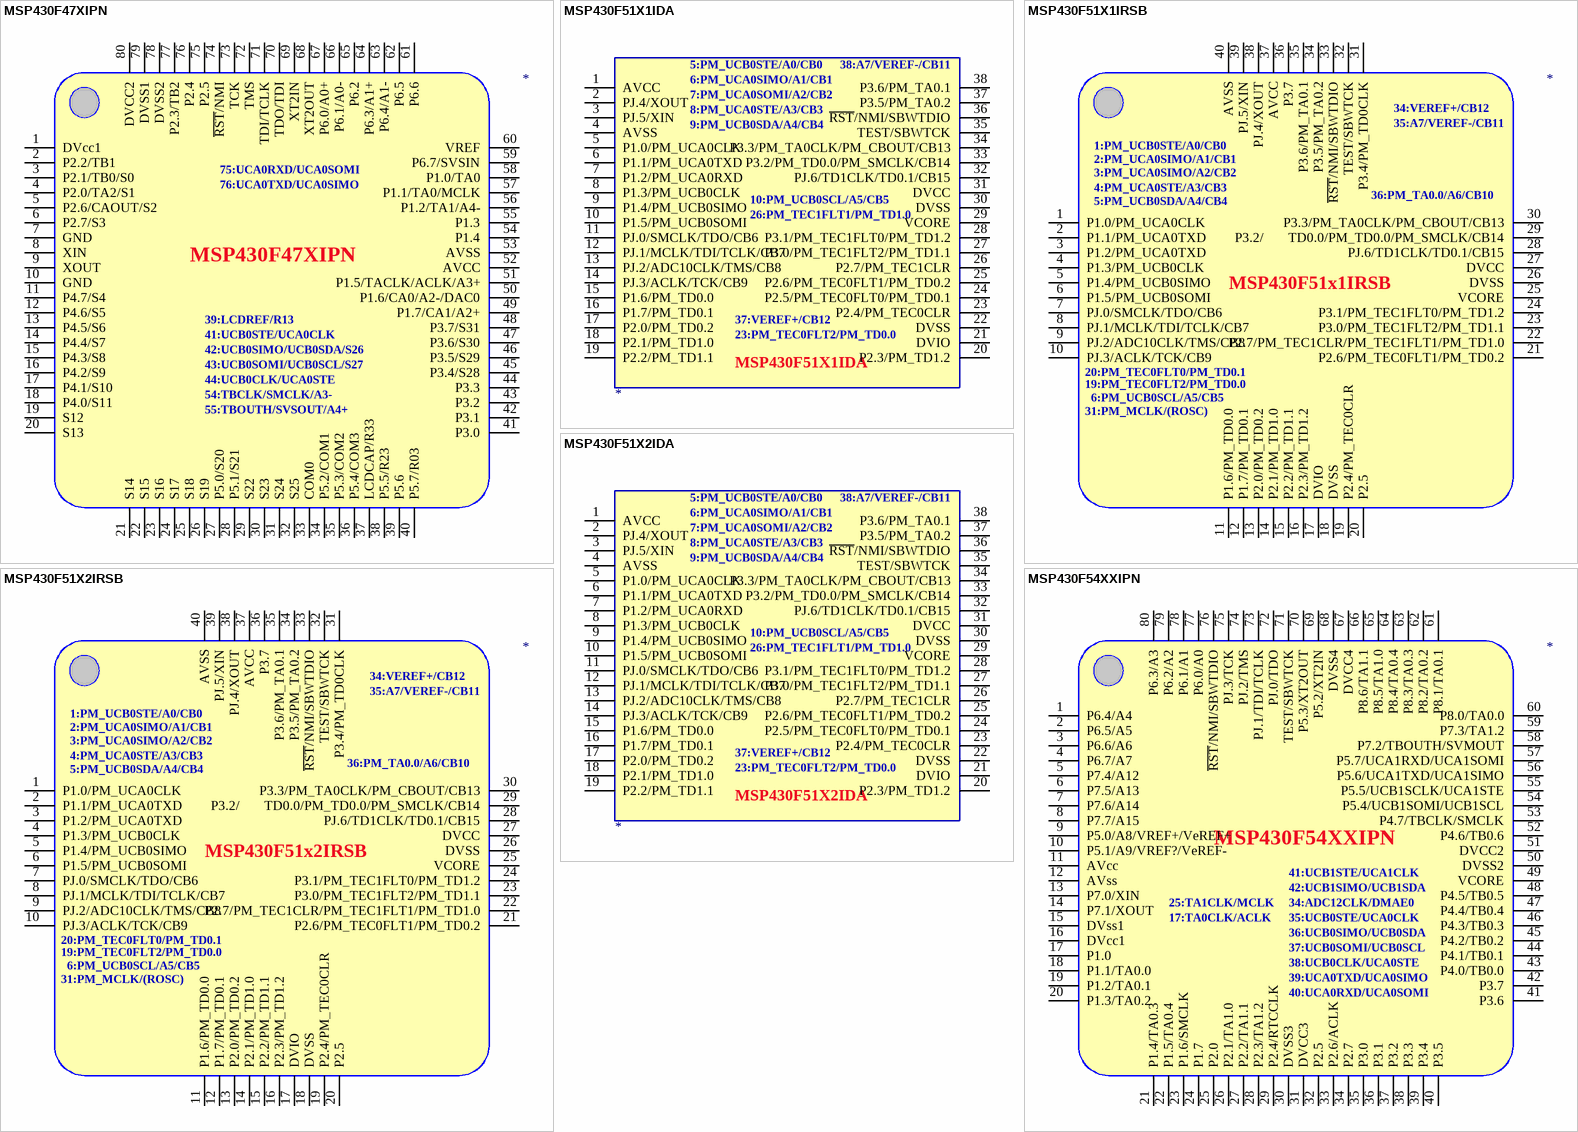
[diagram p8: symbols MSP430F47XIPN to MSP430F54XXIPN]

## MSP430F47XIPN
designator ?
pins: 1 DVcc1, 2 P2.2/TB1, 3 P2.1/TB0/S0, 4 P2.0/TA2/S1, 5 P2.6/CAOUT/S2, 6 P2.7/S3, 7 GND, 8 XIN, 9 XOUT, 10 GND, 11 P4.7/S4, 12 P4.6/S5, 13 P4.5/S6, 14 P4.4/S7, 15 P4.3/S8, 16 P4.2/S9, 17 P4.1/S10 , 18 P4.0/S11, 19 S12, 20 S13, 21 S14, 22 S15, 23 S16, 24 S17, 25 S18, 26 S19, 27 P5.0/S20, 28 P5.1/S21, 29 S22, 30 S23, 31 S24, 32 S25, 33 COM0, 34 P5.2/COM1, 35 P5.3/COM2, 36 P5.4/COM3, 37 LCDCAP/R33, 38 P5.5/R23, 39 P5.6, 40 P5.7/R03, 41 P3.0, 42 P3.1, 43 P3.2, 44 P3.3, 45 P3.4/S28, 46 P3.5/S29, 47 P3.6/S30, 48 P3.7/S31, 49 P1.7/CA1/A2+, 50 P1.6/CA0/A2-/DAC0, 51 P1.5/TACLK/ACLK/A3+, 52 AVCC, 53 AVSS, 54 P1.4, 55 P1.3, 56 P1.2/TA1/A4-, 57 P1.1/TA0/MCLK, 58 P1.0/TA0, 59 P6.7/SVSIN, 60 VREF, 61 P6.6, 62 P6.5, 63 P6.4/A1-, 64 P6.3/A1+, 65 P6.2, 66 P6.1/A0-, 67 P6.0/A0+, 68 XT2OUT, 69 XT2IN, 70 TDO/TDI, 71 TDI/TCLK, 72 TMS, 73 TCK, 74 ~{RST}/NMI, 75 P2.5, 76 P2.4, 77 P2.3/TB2, 78 DVSS2, 79 DVSS1, 80 DVCC2
text: 75:UCA0RXD/UCA0SOMI; 76:UCA0TXD/UCA0SIMO; 39:LCDREF/R13; 41:UCB0STE/UCA0CLK; 42:UCB0SIMO/UCB0SDA/S26; 43:UCB0SOMI/UCB0SCL/S27; 44:UCB0CLK/UCA0STE; 54:TBCLK/SMCLK/A3-; 55:TBOUTH/SVSOUT/A4+

## MSP430F51X1IDA
designator ?
pins: 1 AVCC, 2 PJ.4/XOUT, 3 PJ.5/XIN, 4 AVSS (power), 5 P1.0/PM_UCA0CLK (power), 6 P1.1/PM_UCA0TXD (power), 7 P1.2/PM_UCA0RXD (power), 8 P1.3/PM_UCB0CLK (power), 9 P1.4/PM_UCB0SIMO (power), 10 P1.5/PM_UCB0SOMI (power), 11 PJ.0/SMCLK/TDO/CB6 (power), 12 PJ.1/MCLK/TDI/TCLK/CB7 (power), 13 PJ.2/ADC10CLK/TMS/CB8 (power), 14 PJ.3/ACLK/TCK/CB9 (power), 15 P1.6/PM_TD0.0 (power), 16 P1.7/PM_TD0.1 (power), 17 P2.0/PM_TD0.2 (power), 18 P2.1/PM_TD1.0 (power), 19 P2.2/PM_TD1.1 (power), 20 P2.3/PM_TD1.2 (power), 21 DVIO (power), 22 DVSS (power), 23 P2.4/PM_TEC0CLR (power), 24 P2.5/PM_TEC0FLT0/PM_TD0.1 (power), 25 P2.6/PM_TEC0FLT1/PM_TD0.2 (power), 26 P2.7/PM_TEC1CLR (power), 27 P3.0/PM_TEC1FLT2/PM_TD1.1 (power), 28 P3.1/PM_TEC1FLT0/PM_TD1.2 (power), 29 VCORE (power), 30 DVSS (power), 31 DVCC (power), 32 PJ.6/TD1CLK/TD0.1/CB15 (power), 33 P3.2/PM_TD0.0/PM_SMCLK/CB14 (power), 34 P3.3/PM_TA0CLK/PM_CBOUT/CB13 (power), 35 TEST/SBWTCK, 36 ~{RST}/NMI/SBWTDIO, 37 P3.5/PM_TA0.2, 38 P3.6/PM_TA0.1
text: 5:PM_UCB0STE/A0/CB0; 38:A7/VEREF-/CB11; 6:PM_UCA0SIMO/A1/CB1; 7:PM_UCA0SOMI/A2/CB2; 8:PM_UCA0STE/A3/CB3; 9:PM_UCB0SDA/A4/CB4; 10:PM_UCB0SCL/A5/CB5; 26:PM_TEC1FLT1/PM_TD1.0; 37:VEREF+/CB12; 23:PM_TEC0FLT2/PM_TD0.0

## MSP430F51X1IRSB
designator ?
pins: 1 P1.0/PM_UCA0CLK, 2 P1.1/PM_UCA0TXD, 3 P1.2/PM_UCA0TXD, 4 P1.3/PM_UCB0CLK, 5 P1.4/PM_UCB0SIMO, 6 P1.5/PM_UCB0SOMI, 7 PJ.0/SMCLK/TDO/CB6, 8 PJ.1/MCLK/TDI/TCLK/CB7, 9 PJ.2/ADC10CLK/TMS/CB8, 10 PJ.3/ACLK/TCK/CB9, 11 P1.6/PM_TD0.0, 12 P1.7/PM_TD0.1, 13 P2.0/PM_TD0.2, 14 P2.1/PM_TD1.0, 15 P2.2/PM_TD1.1, 16 P2.3/PM_TD1.2, 17 DVIO, 18 DVSS, 19 P2.4/PM_TEC0CLR, 20 P2.5, 21 P2.6/PM_TEC0FLT1/PM_TD0.2, 22 P2.7/PM_TEC1CLR/PM_TEC1FLT1/PM_TD1.0, 23 P3.0/PM_TEC1FLT2/PM_TD1.1, 24 P3.1/PM_TEC1FLT0/PM_TD1.2, 25 VCORE, 26 DVSS, 27 DVCC, 28 PJ.6/TD1CLK/TD0.1/CB15, 29 P3.2/       TD0.0/PM_TD0.0/PM_SMCLK/CB14, 30 P3.3/PM_TA0CLK/PM_CBOUT/CB13, 31 P3.4/PM_TD0CLK, 32 TEST/SBWTCK, 33 ~{RST}/NMI/SBWTDIO, 34 P3.5/PM_TA0.2, 35 P3.6/PM_TA0.1, 36 P3.7, 37 AVCC, 38 PJ.4/XOUT, 39 PJ.5/XIN, 40 AVSS
text: 34:VEREF+/CB12; 35:A7/VEREF-/CB11; 1:PM_UCB0STE/A0/CB0; 2:PM_UCA0SIMO/A1/CB1; 3:PM_UCA0SIMO/A2/CB2; 4:PM_UCA0STE/A3/CB3; 36:PM_TA0.0/A6/CB10; 5:PM_UCB0SDA/A4/CB4; MSP430F51x1IRSB; 20:PM_TEC0FLT0/PM_TD0.1; 19:PM_TEC0FLT2/PM_TD0.0; 6:PM_UCB0SCL/A5/CB5; 31:PM_MCLK/(ROSC)

## MSP430F51X2IDA
designator ?
pins: 1 AVCC, 2 PJ.4/XOUT, 3 PJ.5/XIN, 4 AVSS (power), 5 P1.0/PM_UCA0CLK (power), 6 P1.1/PM_UCA0TXD (power), 7 P1.2/PM_UCA0RXD (power), 8 P1.3/PM_UCB0CLK (power), 9 P1.4/PM_UCB0SIMO (power), 10 P1.5/PM_UCB0SOMI (power), 11 PJ.0/SMCLK/TDO/CB6 (power), 12 PJ.1/MCLK/TDI/TCLK/CB7 (power), 13 PJ.2/ADC10CLK/TMS/CB8 (power), 14 PJ.3/ACLK/TCK/CB9 (power), 15 P1.6/PM_TD0.0 (power), 16 P1.7/PM_TD0.1 (power), 17 P2.0/PM_TD0.2 (power), 18 P2.1/PM_TD1.0 (power), 19 P2.2/PM_TD1.1 (power), 20 P2.3/PM_TD1.2 (power), 21 DVIO (power), 22 DVSS (power), 23 P2.4/PM_TEC0CLR (power), 24 P2.5/PM_TEC0FLT0/PM_TD0.1 (power), 25 P2.6/PM_TEC0FLT1/PM_TD0.2 (power), 26 P2.7/PM_TEC1CLR (power), 27 P3.0/PM_TEC1FLT2/PM_TD1.1 (power), 28 P3.1/PM_TEC1FLT0/PM_TD1.2 (power), 29 VCORE (power), 30 DVSS (power), 31 DVCC (power), 32 PJ.6/TD1CLK/TD0.1/CB15 (power), 33 P3.2/PM_TD0.0/PM_SMCLK/CB14 (power), 34 P3.3/PM_TA0CLK/PM_CBOUT/CB13 (power), 35 TEST/SBWTCK, 36 ~{RST}/NMI/SBWTDIO, 37 P3.5/PM_TA0.2, 38 P3.6/PM_TA0.1
text: 5:PM_UCB0STE/A0/CB0; 38:A7/VEREF-/CB11; 6:PM_UCA0SIMO/A1/CB1; 7:PM_UCA0SOMI/A2/CB2; 8:PM_UCA0STE/A3/CB3; 9:PM_UCB0SDA/A4/CB4; 10:PM_UCB0SCL/A5/CB5; 26:PM_TEC1FLT1/PM_TD1.0; 37:VEREF+/CB12; 23:PM_TEC0FLT2/PM_TD0.0

## MSP430F51X2IRSB
designator ?
pins: 1 P1.0/PM_UCA0CLK, 2 P1.1/PM_UCA0TXD, 3 P1.2/PM_UCA0TXD, 4 P1.3/PM_UCB0CLK, 5 P1.4/PM_UCB0SIMO, 6 P1.5/PM_UCB0SOMI, 7 PJ.0/SMCLK/TDO/CB6, 8 PJ.1/MCLK/TDI/TCLK/CB7, 9 PJ.2/ADC10CLK/TMS/CB8, 10 PJ.3/ACLK/TCK/CB9, 11 P1.6/PM_TD0.0, 12 P1.7/PM_TD0.1, 13 P2.0/PM_TD0.2, 14 P2.1/PM_TD1.0, 15 P2.2/PM_TD1.1, 16 P2.3/PM_TD1.2, 17 DVIO, 18 DVSS, 19 P2.4/PM_TEC0CLR, 20 P2.5, 21 P2.6/PM_TEC0FLT1/PM_TD0.2, 22 P2.7/PM_TEC1CLR/PM_TEC1FLT1/PM_TD1.0, 23 P3.0/PM_TEC1FLT2/PM_TD1.1, 24 P3.1/PM_TEC1FLT0/PM_TD1.2, 25 VCORE, 26 DVSS, 27 DVCC, 28 PJ.6/TD1CLK/TD0.1/CB15, 29 P3.2/       TD0.0/PM_TD0.0/PM_SMCLK/CB14, 30 P3.3/PM_TA0CLK/PM_CBOUT/CB13, 31 P3.4/PM_TD0CLK, 32 TEST/SBWTCK, 33 ~{RST}/NMI/SBWTDIO, 34 P3.5/PM_TA0.2, 35 P3.6/PM_TA0.1, 36 P3.7, 37 AVCC, 38 PJ.4/XOUT, 39 PJ.5/XIN, 40 AVSS
text: 34:VEREF+/CB12; 35:A7/VEREF-/CB11; 1:PM_UCB0STE/A0/CB0; 2:PM_UCA0SIMO/A1/CB1; 3:PM_UCA0SIMO/A2/CB2; 4:PM_UCA0STE/A3/CB3; 36:PM_TA0.0/A6/CB10; 5:PM_UCB0SDA/A4/CB4; MSP430F51x2IRSB; 20:PM_TEC0FLT0/PM_TD0.1; 19:PM_TEC0FLT2/PM_TD0.0; 6:PM_UCB0SCL/A5/CB5; 31:PM_MCLK/(ROSC)